# Altium schematic symbol library Analog_DAC.SchLib: 136 symbols (part 1 of 2)
Pins are listed as number, name and electrical type; pins without a type are passive.

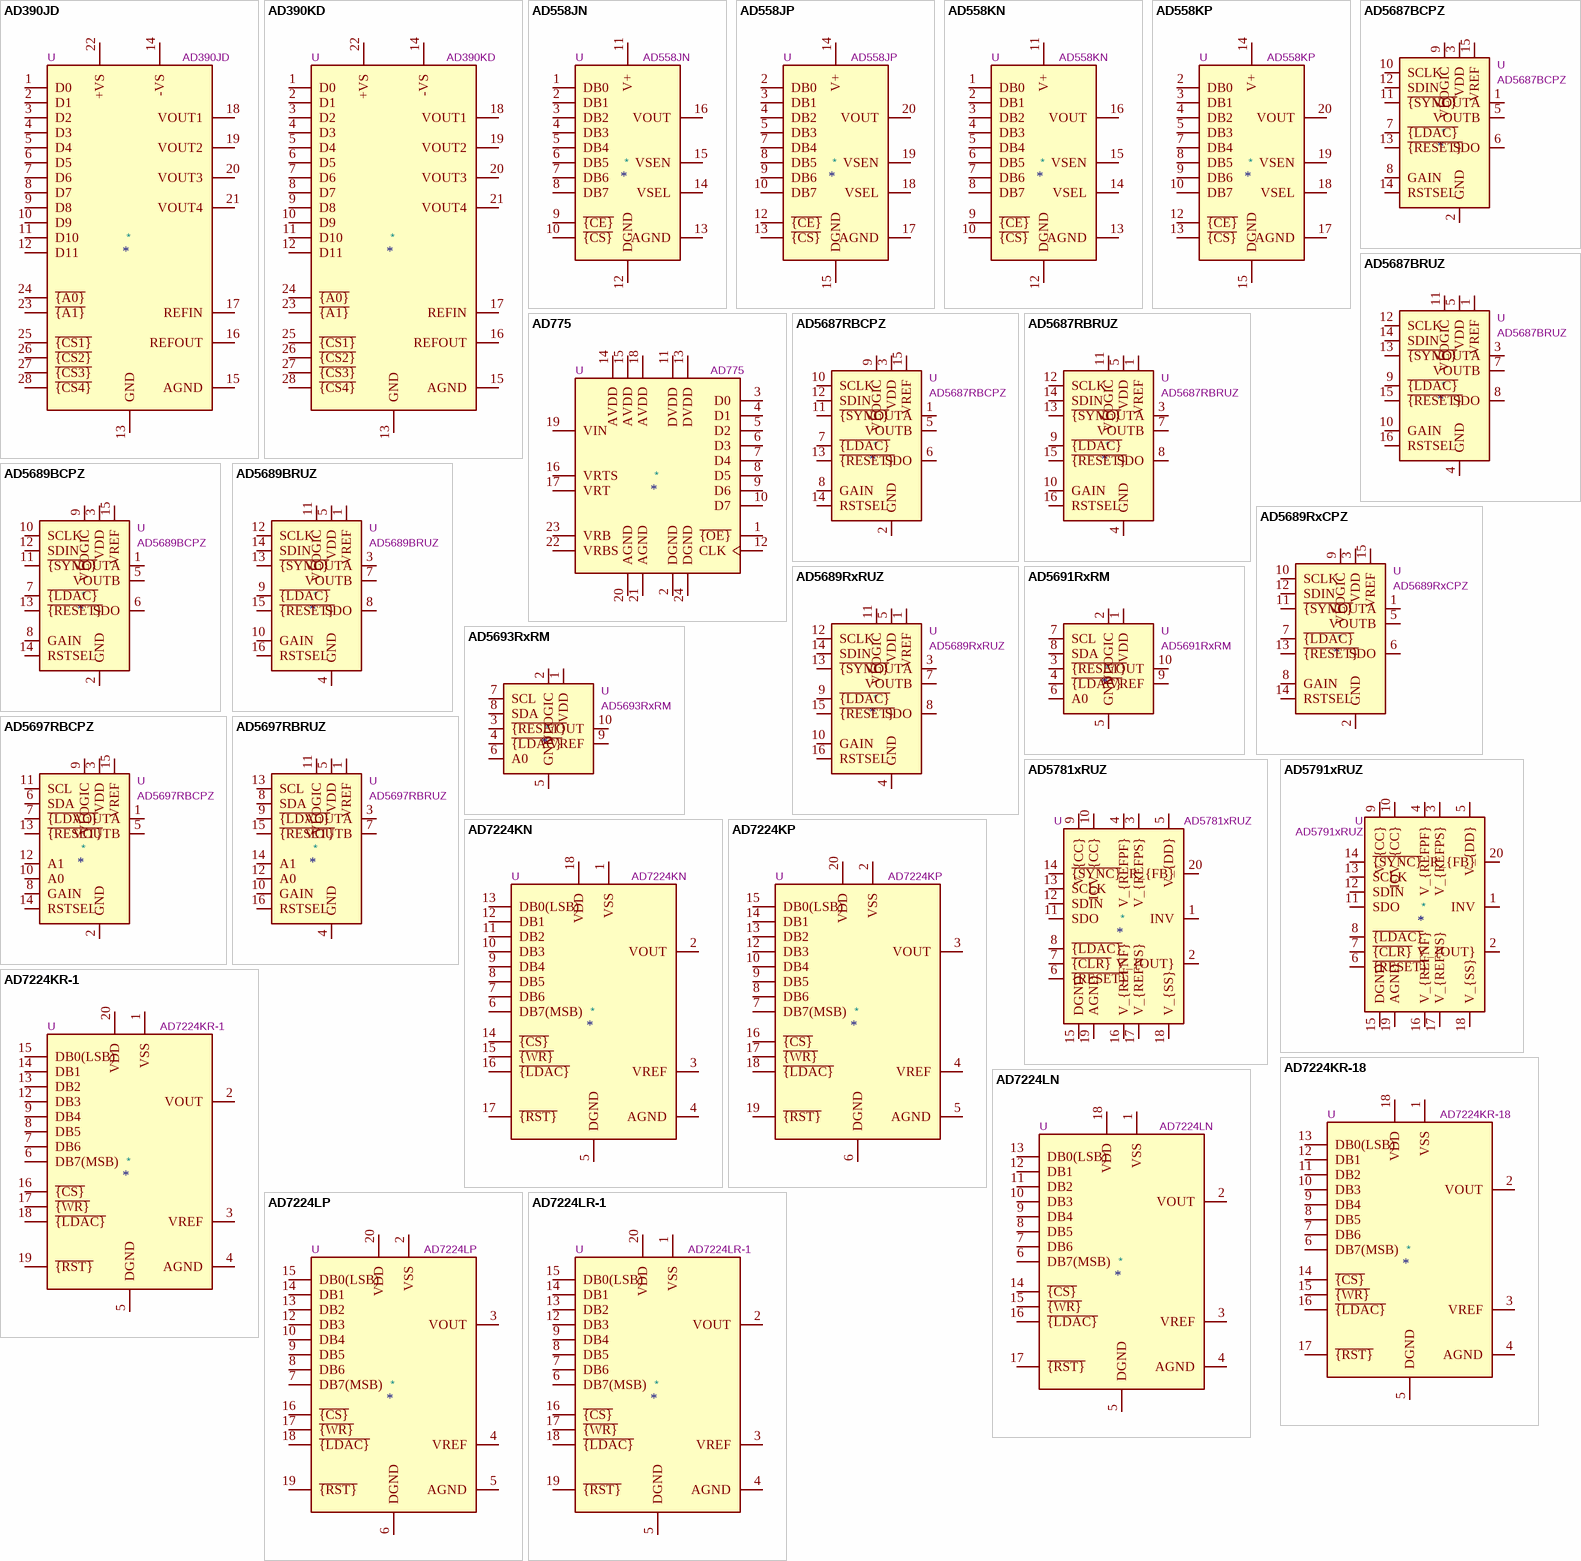
[diagram p0: symbols AD390JD to AD7224LR-1]

## AD390JD
designator *  value AD390JD  Reference: U
ki_keywords: 4ch DAC 12bit; ki_description: Quad 12bit DAC, 4LSB Gain Error, DH-28; Datasheet: https://www.analog.com/static/imported-files/data_sheets/AD390MIL.pdf
pins: 1 D0, 2 D1, 3 D2, 4 D3, 5 D4, 6 D5, 7 D6, 8 D7, 9 D8, 10 D9, 11 D10, 12 D11, 13 GND, 14 -VS, 15 AGND, 16 REFOUT, 17 REFIN, 18 VOUT1, 19 VOUT2, 20 VOUT3, 21 VOUT4, 22 +VS, 23 ~{{A1}}, 24 ~{{A0}}, 25 ~{{CS1}}, 26 ~{{CS2}}, 27 ~{{CS3}}, 28 ~{{CS4}}

## AD390KD
designator *  value AD390KD  Reference: U
ki_keywords: 4ch DAC 12bit; ki_description: Quad 12bit DAC, 2LSB Gain Error, DH-28; Datasheet: https://www.analog.com/static/imported-files/data_sheets/AD390MIL.pdf
pins: 1 D0, 2 D1, 3 D2, 4 D3, 5 D4, 6 D5, 7 D6, 8 D7, 9 D8, 10 D9, 11 D10, 12 D11, 13 GND, 14 -VS, 15 AGND, 16 REFOUT, 17 REFIN, 18 VOUT1, 19 VOUT2, 20 VOUT3, 21 VOUT4, 22 +VS, 23 ~{{A1}}, 24 ~{{A0}}, 25 ~{{CS1}}, 26 ~{{CS2}}, 27 ~{{CS3}}, 28 ~{{CS4}}

## AD558JN
designator *  value AD558JN  Reference: U
ki_keywords: 8bit DAC Reference Single Supply; ki_description: Single 8-bit DAC, Internal Reference, Output Amp, Single Supply, DIP-16; ki_fp_filters: DIP* PDIP*; Datasheet: https://www.analog.com/static/imported-files/data_sheets/AD558.pdf
pins: 1 DB0, 2 DB1, 3 DB2, 4 DB3, 5 DB4, 6 DB5, 7 DB6, 8 DB7, 9 ~{{CE}}, 10 ~{{CS}}, 11 V+, 12 DGND, 13 AGND, 14 VSEL, 15 VSEN, 16 VOUT

## AD558JP
designator *  value AD558JP  Reference: U
ki_keywords: 8bit DAC Reference Single Supply; ki_description: Single 8-bit DAC, Internal Reference, Output Amp, Single Supply, PLCC-20; Datasheet: https://www.analog.com/static/imported-files/data_sheets/AD558.pdf
pins: 2 DB0, 3 DB1, 4 DB2, 5 DB3, 7 DB4, 8 DB5, 9 DB6, 10 DB7, 12 ~{{CE}}, 13 ~{{CS}}, 14 V+, 15 DGND, 17 AGND, 18 VSEL, 19 VSEN, 20 VOUT

## AD558KN
designator *  value AD558KN  Reference: U
ki_keywords: 8bit DAC Reference Single Supply; ki_description: Single 8-bit DAC, Internal Reference, Output Amp, Single Supply, DIP-16; ki_fp_filters: DIP* PDIP*; Datasheet: https://www.analog.com/static/imported-files/data_sheets/AD558.pdf
pins: 1 DB0, 2 DB1, 3 DB2, 4 DB3, 5 DB4, 6 DB5, 7 DB6, 8 DB7, 9 ~{{CE}}, 10 ~{{CS}}, 11 V+, 12 DGND, 13 AGND, 14 VSEL, 15 VSEN, 16 VOUT

## AD558KP
designator *  value AD558KP  Reference: U
ki_keywords: 8bit DAC Reference Single Supply; ki_description: Single 8-bit DAC, Internal Reference, Output Amp, Single Supply, PLCC-20; Datasheet: https://www.analog.com/static/imported-files/data_sheets/AD558.pdf
pins: 2 DB0, 3 DB1, 4 DB2, 5 DB3, 7 DB4, 8 DB5, 9 DB6, 10 DB7, 12 ~{{CE}}, 13 ~{{CS}}, 14 V+, 15 DGND, 17 AGND, 18 VSEL, 19 VSEN, 20 VOUT

## AD775
designator *  value AD775  Reference: U
ki_keywords: DAC CNA; ki_description: DA Converter 8 bits - 20MHz, PDIP/SOIC-24; Datasheet: https://www.analog.com/media/en/technical-documentation/data-sheets/AD775.pdf
pins: 1 ~{{OE}}, 2 DGND, 3 D0, 4 D1, 5 D2, 6 D3, 7 D4, 8 D5, 9 D6, 10 D7, 11 DVDD, 12 CLK, 13 DVDD, 14 AVDD, 15 AVDD, 16 VRTS, 17 VRT, 18 AVDD, 19 VIN, 20 AGND, 21 AGND, 22 VRBS, 23 VRB, 24 DGND

## AD5687BCPZ
designator *  value AD5687BCPZ  Reference: U
ki_keywords: dac 2nch 12bit spi; ki_description: Dual, 12-Bit nanoDAC+ with SPI Interface, LFCSP-16; ki_fp_filters: LFCSP*3x3mm*P0.5mm*; Footprint: Package_CSP:LFCSP-16-1EP_3x3mm_P0.5mm_EP1.854x1.854mm; Datasheet: https://www.analog.com/media/en/technical-documentation/data-sheets/AD5689_5687.pdf
pins: 1 VOUTA, 2 GND, 3 VDD, 4 NC hidden, 5 VOUTB, 6 SDO, 7 ~{{LDAC}}, 8 GAIN, 9 VLOGIC, 10 SCLK, 11 ~{{SYNC}}, 12 SDIN, 13 ~{{RESET}}, 14 RSTSEL, 15 VREF, 16 NC hidden, 17 GND hidden

## AD5687BRUZ
designator *  value AD5687BRUZ  Reference: U
ki_keywords: dac 2nch 12bit spi; ki_description: Dual, 12-Bit nanoDAC+ with SPI Interface, TSSOP-16; ki_fp_filters: TSSOP*4.4x5mm*P0.65mm*; Footprint: Package_SO:TSSOP-16_4.4x5mm_P0.65mm; Datasheet: https://www.analog.com/media/en/technical-documentation/data-sheets/AD5689_5687.pdf
pins: 1 VREF, 2 NC hidden, 3 VOUTA, 4 GND, 5 VDD, 6 NC hidden, 7 VOUTB, 8 SDO, 9 ~{{LDAC}}, 10 GAIN, 11 VLOGIC, 12 SCLK, 13 ~{{SYNC}}, 14 SDIN, 15 ~{{RESET}}, 16 RSTSEL

## AD5687RBCPZ
designator *  value AD5687RBCPZ  Reference: U
ki_keywords: dac 2nch 12bit spi; ki_description: Dual, 12-Bit nanoDAC+ with 2 ppm/°C Reference, SPI Interface, LFCSP-16; ki_fp_filters: LFCSP*3x3mm*P0.5mm*; Footprint: Package_CSP:LFCSP-16-1EP_3x3mm_P0.5mm_EP1.854x1.854mm; Datasheet: https://www.analog.com/media/en/technical-documentation/data-sheets/AD5689R_5687R.pdf
pins: 1 VOUTA, 2 GND, 3 VDD, 4 NC hidden, 5 VOUTB, 6 SDO, 7 ~{{LDAC}}, 8 GAIN, 9 VLOGIC, 10 SCLK, 11 ~{{SYNC}}, 12 SDIN, 13 ~{{RESET}}, 14 RSTSEL, 15 VREF, 16 NC hidden, 17 GND hidden

## AD5687RBRUZ
designator *  value AD5687RBRUZ  Reference: U
ki_keywords: dac 2nch 12bit spi; ki_description: Dual, 12-Bit nanoDAC+ with 2 ppm/°C Reference, SPI Interface, TSSOP-16; ki_fp_filters: TSSOP*4.4x5mm*P0.65mm*; Footprint: Package_SO:TSSOP-16_4.4x5mm_P0.65mm; Datasheet: https://www.analog.com/media/en/technical-documentation/data-sheets/AD5689R_5687R.pdf
pins: 1 VREF, 2 NC hidden, 3 VOUTA, 4 GND, 5 VDD, 6 NC hidden, 7 VOUTB, 8 SDO, 9 ~{{LDAC}}, 10 GAIN, 11 VLOGIC, 12 SCLK, 13 ~{{SYNC}}, 14 SDIN, 15 ~{{RESET}}, 16 RSTSEL

## AD5689BCPZ
designator *  value AD5689BCPZ  Reference: U
ki_keywords: dac 2nch 16bit spi; ki_description: Dual, 16-Bit nanoDAC+ with SPI Interface, LFCSP-16; ki_fp_filters: LFCSP*3x3mm*P0.5mm*; Footprint: Package_CSP:LFCSP-16-1EP_3x3mm_P0.5mm_EP1.854x1.854mm; Datasheet: https://www.analog.com/media/en/technical-documentation/data-sheets/AD5689_5687.pdf
pins: 1 VOUTA, 2 GND, 3 VDD, 4 NC hidden, 5 VOUTB, 6 SDO, 7 ~{{LDAC}}, 8 GAIN, 9 VLOGIC, 10 SCLK, 11 ~{{SYNC}}, 12 SDIN, 13 ~{{RESET}}, 14 RSTSEL, 15 VREF, 16 NC hidden, 17 GND hidden

## AD5689BRUZ
designator *  value AD5689BRUZ  Reference: U
ki_keywords: dac 2nch 16bit spi; ki_description: Dual, 16-Bit nanoDAC+ with SPI Interface, TSSOP-16; ki_fp_filters: TSSOP*4.4x5mm*P0.65mm*; Footprint: Package_SO:TSSOP-16_4.4x5mm_P0.65mm; Datasheet: https://www.analog.com/media/en/technical-documentation/data-sheets/AD5689_5687.pdf
pins: 1 VREF, 2 NC hidden, 3 VOUTA, 4 GND, 5 VDD, 6 NC hidden, 7 VOUTB, 8 SDO, 9 ~{{LDAC}}, 10 GAIN, 11 VLOGIC, 12 SCLK, 13 ~{{SYNC}}, 14 SDIN, 15 ~{{RESET}}, 16 RSTSEL

## AD5689RxCPZ
designator *  value AD5689RxCPZ  Reference: U
ki_keywords: dac 2nch 16bit spi; ki_description: Dual, 16-Bit nanoDAC+ with 2 ppm/°C Reference, SPI Interface, LFCSP-16; ki_fp_filters: LFCSP*3x3mm*P0.5mm*; Footprint: Package_CSP:LFCSP-16-1EP_3x3mm_P0.5mm_EP1.854x1.854mm; Datasheet: https://www.analog.com/media/en/technical-documentation/data-sheets/AD5689R_5687R.pdf
pins: 1 VOUTA, 2 GND, 3 VDD, 4 NC hidden, 5 VOUTB, 6 SDO, 7 ~{{LDAC}}, 8 GAIN, 9 VLOGIC, 10 SCLK, 11 ~{{SYNC}}, 12 SDIN, 13 ~{{RESET}}, 14 RSTSEL, 15 VREF, 16 NC hidden, 17 GND hidden

## AD5689RxRUZ
designator *  value AD5689RxRUZ  Reference: U
ki_keywords: dac 2nch 16bit spi; ki_description: Dual, 16-Bit nanoDAC+ with 2 ppm/°C Reference, SPI Interface, TSSOP-16; ki_fp_filters: TSSOP*4.4x5mm*P0.65mm*; Footprint: Package_SO:TSSOP-16_4.4x5mm_P0.65mm; Datasheet: https://www.analog.com/media/en/technical-documentation/data-sheets/AD5689R_5687R.pdf
pins: 1 VREF, 2 NC hidden, 3 VOUTA, 4 GND, 5 VDD, 6 NC hidden, 7 VOUTB, 8 SDO, 9 ~{{LDAC}}, 10 GAIN, 11 VLOGIC, 12 SCLK, 13 ~{{SYNC}}, 14 SDIN, 15 ~{{RESET}}, 16 RSTSEL

## AD5691RxRM
designator *  value AD5691RxRM  Reference: U
ki_keywords: serial DAC i2c digital analog converter; ki_description: Tiny, 12-Bit, I2C, nanoDAC+, 2 ppm/°C Reference, MSOP-10; ki_fp_filters: MSOP*3x3mm*P0.5mm*; Footprint: Package_SO:MSOP-10_3x3mm_P0.5mm; Datasheet: https://www.analog.com/media/en/technical-documentation/data-sheets/AD5693R_5692R_5691R_5693.pdf
pins: 1 VDD, 2 VLOGIC, 3 ~{{RESET}}, 4 ~{{LDAC}}, 5 GND, 6 A0, 7 SCL, 8 SDA, 9 VREF, 10 VOUT

## AD5693RxRM
designator *  value AD5693RxRM  Reference: U
ki_keywords: serial DAC i2c digital analog converter; ki_description: Tiny, 16-Bit, I2C, nanoDAC+, 2 ppm/°C Reference, MSOP-10; ki_fp_filters: MSOP*3x3mm*P0.5mm*; Footprint: Package_SO:MSOP-10_3x3mm_P0.5mm; Datasheet: https://www.analog.com/media/en/technical-documentation/data-sheets/AD5693R_5692R_5691R_5693.pdf
pins: 1 VDD, 2 VLOGIC, 3 ~{{RESET}}, 4 ~{{LDAC}}, 5 GND, 6 A0, 7 SCL, 8 SDA, 9 VREF, 10 VOUT

## AD5697RBCPZ
designator *  value AD5697RBCPZ  Reference: U
ki_keywords: dac 2nch 12bit i2c; ki_description: Dual, 12-Bit nanoDAC+ with 2 ppm/°C Reference, I2C Interface, LFCSP-16; ki_fp_filters: LFCSP*3x3mm*P0.5mm*; Footprint: Package_CSP:LFCSP-16-1EP_3x3mm_P0.5mm_EP1.854x1.854mm; Datasheet: https://www.analog.com/media/en/technical-documentation/data-sheets/AD5697R.pdf
pins: 1 VOUTA, 2 GND, 3 VDD, 4 NC hidden, 5 VOUTB, 6 SDA, 7 ~{{LDAC}}, 8 GAIN, 9 VLOGIC, 10 A0, 11 SCL, 12 A1, 13 ~{{RESET}}, 14 RSTSEL, 15 VREF, 16 NC hidden, 17 GND hidden

## AD5697RBRUZ
designator *  value AD5697RBRUZ  Reference: U
ki_keywords: dac 2nch 12bit i2c; ki_description: Dual, 12-Bit nanoDAC+ with 2 ppm/°C Reference, I2C Interface, TSSOP-16; ki_fp_filters: TSSOP*4.4x5mm*P0.65mm*; Footprint: Package_SO:TSSOP-16_4.4x5mm_P0.65mm; Datasheet: https://www.analog.com/media/en/technical-documentation/data-sheets/AD5697R.pdf
pins: 1 VREF, 2 NC hidden, 3 VOUTA, 4 GND, 5 VDD, 6 NC hidden, 7 VOUTB, 8 SDA, 9 ~{{LDAC}}, 10 GAIN, 11 VLOGIC, 12 A0, 13 SCL, 14 A1, 15 ~{{RESET}}, 16 RSTSEL

## AD5781xRUZ
designator *  value AD5781xRUZ  Reference: U
ki_keywords: 1ch; ki_description: 18Bit, ±0,5 LSB INL, Voltage Output DAC, TSSOP-20; ki_fp_filters: TSSOP*4.4?6.5mm*P0.65mm*; Footprint: Package_SO:TSSOP-20_4.4x6.5mm_P0.65mm; Datasheet: https://www.analog.com/media/en/technical-documentation/data-sheets/ad5781.pdf
pins: 1 INV, 2 V_{OUT}, 3 V_{REFPS}, 4 V_{REFPF}, 5 V_{DD}, 6 ~{{RESET}}, 7 ~{{CLR}}, 8 ~{{LDAC}}, 9 V_{CC}, 10 IOV_{CC}, 11 SDO, 12 SDIN, 13 SCLK, 14 ~{{SYNC}}, 15 DGND, 16 V_{REFNF}, 17 V_{REFNS}, 18 V_{SS}, 19 AGND, 20 R_{FB}

## AD5791xRUZ
designator *  value AD5791xRUZ  Reference: U
ki_keywords: 1ch; ki_description: 1 ppm, 20-Bit, ±1 LSB INL, Voltage Output DAC, TSSOP-20; ki_fp_filters: TSSOP*4.4?6.5mm*P0.65mm*; Footprint: Package_SO:TSSOP-20_4.4x6.5mm_P0.65mm; Datasheet: https://www.analog.com/media/en/technical-documentation/data-sheets/ad5791.pdf
pins: 1 INV, 2 V_{OUT}, 3 V_{REFPS}, 4 V_{REFPF}, 5 V_{DD}, 6 ~{{RESET}}, 7 ~{{CLR}}, 8 ~{{LDAC}}, 9 V_{CC}, 10 IOV_{CC}, 11 SDO, 12 SDIN, 13 SCLK, 14 ~{{SYNC}}, 15 DGND, 16 V_{REFNF}, 17 V_{REFNS}, 18 V_{SS}, 19 AGND, 20 R_{FB}

## AD7224KN
designator *  value AD7224KN  Reference: U
ki_keywords: 8bit DAC Dual Single Supply 1ch; ki_description: 8bit DAC, Dual or Single Supply, DIP-18; ki_fp_filters: DIP* PDIP*; Datasheet: https://www.analog.com/static/imported-files/data_sheets/AD7224.pdf
pins: 1 VSS, 2 VOUT, 3 VREF, 4 AGND, 5 DGND, 6 DB7(MSB), 7 DB6, 8 DB5, 9 DB4, 10 DB3, 11 DB2, 12 DB1, 13 DB0(LSB), 14 ~{{CS}}, 15 ~{{WR}}, 16 ~{{LDAC}}, 17 ~{{RST}}, 18 VDD

## AD7224KP
designator *  value AD7224KP  Reference: U
ki_keywords: 8bit DAC Dual Single Supply; ki_description: 8bit DAC, Dual or Single Supply, PLCC-20; ki_fp_filters: PLCC*; Datasheet: https://www.analog.com/static/imported-files/data_sheets/AD7224.pdf
pins: 2 VSS, 3 VOUT, 4 VREF, 5 AGND, 6 DGND, 7 DB7(MSB), 8 DB6, 9 DB5, 10 DB4, 12 DB3, 13 DB2, 14 DB1, 15 DB0(LSB), 16 ~{{CS}}, 17 ~{{WR}}, 18 ~{{LDAC}}, 19 ~{{RST}}, 20 VDD

## AD7224KR-1
designator *  value AD7224KR-1  Reference: U
ki_keywords: 8bit DAC Dual Single Supply; ki_description: 8bit DAC, Dual or Single Supply, SOIC-20; ki_fp_filters: SO*; Datasheet: https://www.analog.com/static/imported-files/data_sheets/AD7224.pdf
pins: 1 VSS, 2 VOUT, 3 VREF, 4 AGND, 5 DGND, 6 DB7(MSB), 7 DB6, 8 DB5, 9 DB4, 12 DB3, 13 DB2, 14 DB1, 15 DB0(LSB), 16 ~{{CS}}, 17 ~{{WR}}, 18 ~{{LDAC}}, 19 ~{{RST}}, 20 VDD

## AD7224KR-18
designator *  value AD7224KR-18  Reference: U
ki_keywords: 8bit DAC Dual Single Supply; ki_description: 8bit DAC, Dual or Single Supply, SOIC-18; ki_fp_filters: SO*; Datasheet: https://www.analog.com/static/imported-files/data_sheets/AD7224.pdf
pins: 1 VSS, 2 VOUT, 3 VREF, 4 AGND, 5 DGND, 6 DB7(MSB), 7 DB6, 8 DB5, 9 DB4, 10 DB3, 11 DB2, 12 DB1, 13 DB0(LSB), 14 ~{{CS}}, 15 ~{{WR}}, 16 ~{{LDAC}}, 17 ~{{RST}}, 18 VDD

## AD7224LN
designator *  value AD7224LN  Reference: U
ki_keywords: 8bit DAC Dual Single Supply; ki_description: 8bit DAC, Dual or Single Supply, DIP-18; ki_fp_filters: DIP* PDIP*; Datasheet: https://www.analog.com/static/imported-files/data_sheets/AD7224.pdf
pins: 1 VSS, 2 VOUT, 3 VREF, 4 AGND, 5 DGND, 6 DB7(MSB), 7 DB6, 8 DB5, 9 DB4, 10 DB3, 11 DB2, 12 DB1, 13 DB0(LSB), 14 ~{{CS}}, 15 ~{{WR}}, 16 ~{{LDAC}}, 17 ~{{RST}}, 18 VDD

## AD7224LP
designator *  value AD7224LP  Reference: U
ki_keywords: 8bit DAC Dual Single Supply; ki_description: 8bit DAC, Dual or Single Supply, PLCC-20; ki_fp_filters: PLCC*; Datasheet: https://www.analog.com/static/imported-files/data_sheets/AD7224.pdf
pins: 2 VSS, 3 VOUT, 4 VREF, 5 AGND, 6 DGND, 7 DB7(MSB), 8 DB6, 9 DB5, 10 DB4, 12 DB3, 13 DB2, 14 DB1, 15 DB0(LSB), 16 ~{{CS}}, 17 ~{{WR}}, 18 ~{{LDAC}}, 19 ~{{RST}}, 20 VDD

## AD7224LR-1
designator *  value AD7224LR-1  Reference: U
ki_keywords: 8bit DAC Dual Single Supply; ki_description: 8bit DAC, Dual or Single Supply, SOIC-20; ki_fp_filters: SO*; Datasheet: https://www.analog.com/static/imported-files/data_sheets/AD7224.pdf
pins: 1 VSS, 2 VOUT, 3 VREF, 4 AGND, 5 DGND, 6 DB7(MSB), 7 DB6, 8 DB5, 9 DB4, 12 DB3, 13 DB2, 14 DB1, 15 DB0(LSB), 16 ~{{CS}}, 17 ~{{WR}}, 18 ~{{LDAC}}, 19 ~{{RST}}, 20 VDD

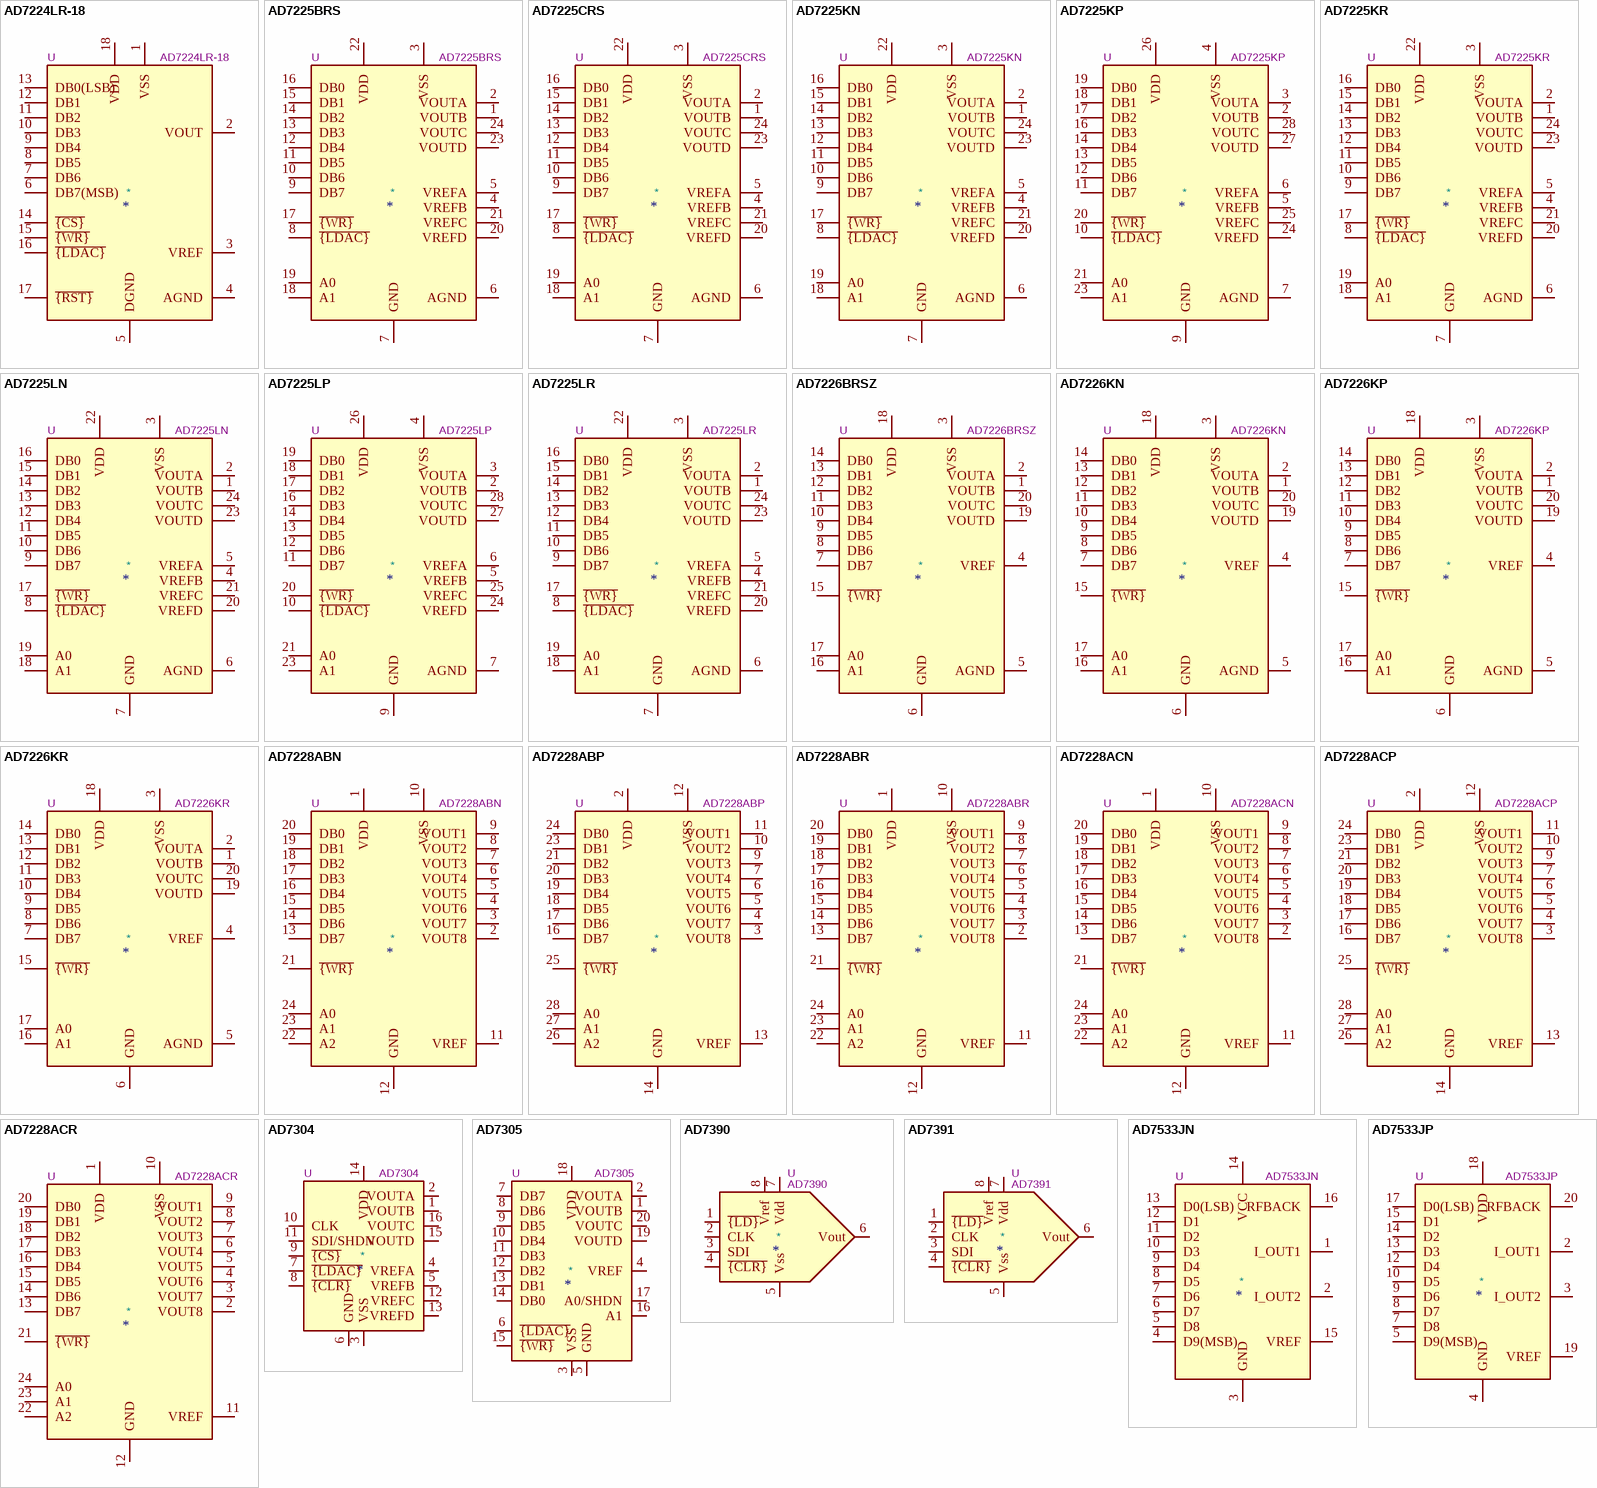
[diagram p1: symbols AD7224LR-18 to AD7533JP]

## AD7224LR-18
designator *  value AD7224LR-18  Reference: U
ki_keywords: 8bit DAC Dual Single Supply; ki_description: 8bit DAC, Dual or Single Supply, SOIC-18; ki_fp_filters: SO*; Datasheet: https://www.analog.com/static/imported-files/data_sheets/AD7224.pdf
pins: 1 VSS, 2 VOUT, 3 VREF, 4 AGND, 5 DGND, 6 DB7(MSB), 7 DB6, 8 DB5, 9 DB4, 10 DB3, 11 DB2, 12 DB1, 13 DB0(LSB), 14 ~{{CS}}, 15 ~{{WR}}, 16 ~{{LDAC}}, 17 ~{{RST}}, 18 VDD

## AD7225BRS
designator *  value AD7225BRS  Reference: U
ki_keywords: 8bit DAC 4CH; ki_description: Quad 8bit DAC, Separate Reference Voltage, SSOP-24; ki_fp_filters: SSOP*; Datasheet: https://www.analog.com/static/imported-files/data_sheets/AD7225.pdf
pins: 1 VOUTB, 2 VOUTA, 3 VSS, 4 VREFB, 5 VREFA, 6 AGND, 7 GND, 8 ~{{LDAC}}, 9 DB7, 10 DB6, 11 DB5, 12 DB4, 13 DB3, 14 DB2, 15 DB1, 16 DB0, 17 ~{{WR}}, 18 A1, 19 A0, 20 VREFD, 21 VREFC, 22 VDD, 23 VOUTD, 24 VOUTC

## AD7225CRS
designator *  value AD7225CRS  Reference: U
ki_keywords: 8bit DAC 4CH; ki_description: Quad 8bit DAC, Separate Reference Voltage, SSOP-24; ki_fp_filters: SSOP*; Datasheet: https://www.analog.com/static/imported-files/data_sheets/AD7225.pdf
pins: 1 VOUTB, 2 VOUTA, 3 VSS, 4 VREFB, 5 VREFA, 6 AGND, 7 GND, 8 ~{{LDAC}}, 9 DB7, 10 DB6, 11 DB5, 12 DB4, 13 DB3, 14 DB2, 15 DB1, 16 DB0, 17 ~{{WR}}, 18 A1, 19 A0, 20 VREFD, 21 VREFC, 22 VDD, 23 VOUTD, 24 VOUTC

## AD7225KN
designator *  value AD7225KN  Reference: U
ki_keywords: 8bit DAC 4CH; ki_description: Quad 8bit DAC, Separate Reference Voltage, PDIP-24; ki_fp_filters: DIP* PDIP*; Datasheet: https://www.analog.com/static/imported-files/data_sheets/AD7225.pdf
pins: 1 VOUTB, 2 VOUTA, 3 VSS, 4 VREFB, 5 VREFA, 6 AGND, 7 GND, 8 ~{{LDAC}}, 9 DB7, 10 DB6, 11 DB5, 12 DB4, 13 DB3, 14 DB2, 15 DB1, 16 DB0, 17 ~{{WR}}, 18 A1, 19 A0, 20 VREFD, 21 VREFC, 22 VDD, 23 VOUTD, 24 VOUTC

## AD7225KP
designator *  value AD7225KP  Reference: U
ki_keywords: 8bit DAC 4CH; ki_description: Quad 8bit DAC, Separate Reference Voltage, PLCC-28; ki_fp_filters: PLCC*; Datasheet: https://www.analog.com/static/imported-files/data_sheets/AD7225.pdf
pins: 2 VOUTB, 3 VOUTA, 4 VSS, 5 VREFB, 6 VREFA, 7 AGND, 9 GND, 10 ~{{LDAC}}, 11 DB7, 12 DB6, 13 DB5, 14 DB4, 16 DB3, 17 DB2, 18 DB1, 19 DB0, 20 ~{{WR}}, 21 A0, 23 A1, 24 VREFD, 25 VREFC, 26 VDD, 27 VOUTD, 28 VOUTC

## AD7225KR
designator *  value AD7225KR  Reference: U
ki_keywords: 8bit DAC 4CH; ki_description: Quad 8bit DAC, Separate Reference Voltage, SOIC-24; ki_fp_filters: SO*; Datasheet: https://www.analog.com/static/imported-files/data_sheets/AD7225.pdf
pins: 1 VOUTB, 2 VOUTA, 3 VSS, 4 VREFB, 5 VREFA, 6 AGND, 7 GND, 8 ~{{LDAC}}, 9 DB7, 10 DB6, 11 DB5, 12 DB4, 13 DB3, 14 DB2, 15 DB1, 16 DB0, 17 ~{{WR}}, 18 A1, 19 A0, 20 VREFD, 21 VREFC, 22 VDD, 23 VOUTD, 24 VOUTC

## AD7225LN
designator *  value AD7225LN  Reference: U
ki_keywords: 8bit DAC 4CH; ki_description: Quad 8bit DAC, Separate Reference Voltage, PDIP-24; ki_fp_filters: DIP* PDIP*; Datasheet: https://www.analog.com/static/imported-files/data_sheets/AD7225.pdf
pins: 1 VOUTB, 2 VOUTA, 3 VSS, 4 VREFB, 5 VREFA, 6 AGND, 7 GND, 8 ~{{LDAC}}, 9 DB7, 10 DB6, 11 DB5, 12 DB4, 13 DB3, 14 DB2, 15 DB1, 16 DB0, 17 ~{{WR}}, 18 A1, 19 A0, 20 VREFD, 21 VREFC, 22 VDD, 23 VOUTD, 24 VOUTC

## AD7225LP
designator *  value AD7225LP  Reference: U
ki_keywords: 8bit DAC 4CH; ki_description: Quad 8bit DAC, Separate Reference Voltage, PLCC-28; ki_fp_filters: PLCC*; Datasheet: https://www.analog.com/static/imported-files/data_sheets/AD7225.pdf
pins: 2 VOUTB, 3 VOUTA, 4 VSS, 5 VREFB, 6 VREFA, 7 AGND, 9 GND, 10 ~{{LDAC}}, 11 DB7, 12 DB6, 13 DB5, 14 DB4, 16 DB3, 17 DB2, 18 DB1, 19 DB0, 20 ~{{WR}}, 21 A0, 23 A1, 24 VREFD, 25 VREFC, 26 VDD, 27 VOUTD, 28 VOUTC

## AD7225LR
designator *  value AD7225LR  Reference: U
ki_keywords: 8bit DAC 4CH; ki_description: Quad 8bit DAC, Separate Reference Voltage, SO-24; ki_fp_filters: SO*; Datasheet: https://www.analog.com/static/imported-files/data_sheets/AD7225.pdf
pins: 1 VOUTB, 2 VOUTA, 3 VSS, 4 VREFB, 5 VREFA, 6 AGND, 7 GND, 8 ~{{LDAC}}, 9 DB7, 10 DB6, 11 DB5, 12 DB4, 13 DB3, 14 DB2, 15 DB1, 16 DB0, 17 ~{{WR}}, 18 A1, 19 A0, 20 VREFD, 21 VREFC, 22 VDD, 23 VOUTD, 24 VOUTC

## AD7226BRSZ
designator *  value AD7226BRSZ  Reference: U
ki_keywords: 4CH DAC 8bit; ki_description: Quad 8bit DAC, 4 Channel, Single Reference Voltage, SSOP-20; ki_fp_filters: SSOP*; Datasheet: https://www.analog.com/static/imported-files/data_sheets/AD7226.pdf
pins: 1 VOUTB, 2 VOUTA, 3 VSS, 4 VREF, 5 AGND, 6 GND, 7 DB7, 8 DB6, 9 DB5, 10 DB4, 11 DB3, 12 DB2, 13 DB1, 14 DB0, 15 ~{{WR}}, 16 A1, 17 A0, 18 VDD, 19 VOUTD, 20 VOUTC

## AD7226KN
designator *  value AD7226KN  Reference: U
ki_keywords: 4CH DAC 8bit; ki_description: Quad 8bit DAC, 4 Channel, Single Reference Voltage, DIP-20; ki_fp_filters: DIP* PDIP*; Datasheet: https://www.analog.com/static/imported-files/data_sheets/AD7226.pdf
pins: 1 VOUTB, 2 VOUTA, 3 VSS, 4 VREF, 5 AGND, 6 GND, 7 DB7, 8 DB6, 9 DB5, 10 DB4, 11 DB3, 12 DB2, 13 DB1, 14 DB0, 15 ~{{WR}}, 16 A1, 17 A0, 18 VDD, 19 VOUTD, 20 VOUTC

## AD7226KP
designator *  value AD7226KP  Reference: U
ki_keywords: 4CH DAC 8bit; ki_description: Quad 8bit DAC, 4 Channel, Single Reference Voltage, PLCC-20; ki_fp_filters: PLCC*; Datasheet: https://www.analog.com/static/imported-files/data_sheets/AD7226.pdf
pins: 1 VOUTB, 2 VOUTA, 3 VSS, 4 VREF, 5 AGND, 6 GND, 7 DB7, 8 DB6, 9 DB5, 10 DB4, 11 DB3, 12 DB2, 13 DB1, 14 DB0, 15 ~{{WR}}, 16 A1, 17 A0, 18 VDD, 19 VOUTD, 20 VOUTC

## AD7226KR
designator *  value AD7226KR  Reference: U
ki_keywords: 4CH DAC 8bit; ki_description: Quad 8bit DAC, 4 Channel, Single Reference Voltage, SOIC-20; ki_fp_filters: SSOP*; Datasheet: https://www.analog.com/static/imported-files/data_sheets/AD7226.pdf
pins: 1 VOUTB, 2 VOUTA, 3 VSS, 4 VREF, 5 AGND, 6 GND, 7 DB7, 8 DB6, 9 DB5, 10 DB4, 11 DB3, 12 DB2, 13 DB1, 14 DB0, 15 ~{{WR}}, 16 A1, 17 A0, 18 VDD, 19 VOUTD, 20 VOUTC

## AD7228ABN
designator *  value AD7228ABN  Reference: U
ki_keywords: 8bit DAC 8CH; ki_description: 8bit DAC 8 Channel, Single Reference, DIP-24; ki_fp_filters: PDIP* DIP*; Datasheet: https://www.analog.com/static/imported-files/data_sheets/AD7228.pdf
pins: 1 VDD, 2 VOUT8, 3 VOUT7, 4 VOUT6, 5 VOUT5, 6 VOUT4, 7 VOUT3, 8 VOUT2, 9 VOUT1, 10 VSS, 11 VREF, 12 GND, 13 DB7, 14 DB6, 15 DB5, 16 DB4, 17 DB3, 18 DB2, 19 DB1, 20 DB0, 21 ~{{WR}}, 22 A2, 23 A1, 24 A0

## AD7228ABP
designator *  value AD7228ABP  Reference: U
ki_keywords: 8bit DAC 8CH; ki_description: 8bit DAC 8 Channel, Single Reference, PLCC-28; ki_fp_filters: PLCC*; Datasheet: https://www.analog.com/static/imported-files/data_sheets/AD7228.pdf
pins: 2 VDD, 3 VOUT8, 4 VOUT7, 5 VOUT6, 6 VOUT5, 7 VOUT4, 9 VOUT3, 10 VOUT2, 11 VOUT1, 12 VSS, 13 VREF, 14 GND, 16 DB7, 17 DB6, 18 DB5, 19 DB4, 20 DB3, 21 DB2, 23 DB1, 24 DB0, 25 ~{{WR}}, 26 A2, 27 A1, 28 A0

## AD7228ABR
designator *  value AD7228ABR  Reference: U
ki_keywords: 8bit DAC 8CH; ki_description: 8bit DAC 8 Channel, Single Reference, SOIC-24; ki_fp_filters: SO*; Datasheet: https://www.analog.com/static/imported-files/data_sheets/AD7228.pdf
pins: 1 VDD, 2 VOUT8, 3 VOUT7, 4 VOUT6, 5 VOUT5, 6 VOUT4, 7 VOUT3, 8 VOUT2, 9 VOUT1, 10 VSS, 11 VREF, 12 GND, 13 DB7, 14 DB6, 15 DB5, 16 DB4, 17 DB3, 18 DB2, 19 DB1, 20 DB0, 21 ~{{WR}}, 22 A2, 23 A1, 24 A0

## AD7228ACN
designator *  value AD7228ACN  Reference: U
ki_keywords: 8bit DAC 8CH; ki_description: 8bit DAC 8 Channel, Single Reference, DIP-24; ki_fp_filters: PDIP* DIP*; Datasheet: https://www.analog.com/static/imported-files/data_sheets/AD7228.pdf
pins: 1 VDD, 2 VOUT8, 3 VOUT7, 4 VOUT6, 5 VOUT5, 6 VOUT4, 7 VOUT3, 8 VOUT2, 9 VOUT1, 10 VSS, 11 VREF, 12 GND, 13 DB7, 14 DB6, 15 DB5, 16 DB4, 17 DB3, 18 DB2, 19 DB1, 20 DB0, 21 ~{{WR}}, 22 A2, 23 A1, 24 A0

## AD7228ACP
designator *  value AD7228ACP  Reference: U
ki_keywords: 8bit DAC 8CH; ki_description: 8bit DAC 8 Channel, Single Reference, PLCC-28; ki_fp_filters: PLCC*; Datasheet: https://www.analog.com/static/imported-files/data_sheets/AD7228.pdf
pins: 2 VDD, 3 VOUT8, 4 VOUT7, 5 VOUT6, 6 VOUT5, 7 VOUT4, 9 VOUT3, 10 VOUT2, 11 VOUT1, 12 VSS, 13 VREF, 14 GND, 16 DB7, 17 DB6, 18 DB5, 19 DB4, 20 DB3, 21 DB2, 23 DB1, 24 DB0, 25 ~{{WR}}, 26 A2, 27 A1, 28 A0

## AD7228ACR
designator *  value AD7228ACR  Reference: U
ki_keywords: 8bit DAC 8CH; ki_description: 8bit DAC 8 Channel, Single Reference, SOIC-24; ki_fp_filters: SO*; Datasheet: https://www.analog.com/static/imported-files/data_sheets/AD7228.pdf
pins: 1 VDD, 2 VOUT8, 3 VOUT7, 4 VOUT6, 5 VOUT5, 6 VOUT4, 7 VOUT3, 8 VOUT2, 9 VOUT1, 10 VSS, 11 VREF, 12 GND, 13 DB7, 14 DB6, 15 DB5, 16 DB4, 17 DB3, 18 DB2, 19 DB1, 20 DB0, 21 ~{{WR}}, 22 A2, 23 A1, 24 A0

## AD7304
designator *  value AD7304  Reference: U
ki_keywords: dac 4ch 8bit spi; ki_description: 3V/5V, Rail-to-Rail, Quad, 8-Bit DAC, SPI Interface, SOIC-16/TSSOP-16; ki_fp_filters: SOIC*W*7.5x10.3mm*P1.27mm* TSSOP*4.4x5mm*P0.65mm*; Datasheet: https://www.analog.com/media/en/technical-documentation/data-sheets/AD7304_7305.pdf
pins: 1 VOUTB, 2 VOUTA, 3 VSS, 4 VREFA, 5 VREFB, 6 GND, 7 ~{{LDAC}}, 8 ~{{CLR}}, 9 ~{{CS}}, 10 CLK, 11 SDI/SHDN, 12 VREFC, 13 VREFD, 14 VDD, 15 VOUTD, 16 VOUTC

## AD7305
designator *  value AD7305  Reference: U
ki_keywords: dac 4ch 8bit parallel; ki_description: 3V/5V, Rail-to-Rail, Quad, 8-Bit DAC, Parallel Interface, SOIC-20/TSSOP-20; ki_fp_filters: SOIC*W*7.5x12.8mm*P1.27mm* TSSOP*4.4x6.5mm*P0.65mm*; Datasheet: https://www.analog.com/media/en/technical-documentation/data-sheets/AD7304_7305.pdf
pins: 1 VOUTB, 2 VOUTA, 3 VSS, 4 VREF, 5 GND, 6 ~{{LDAC}}, 7 DB7, 8 DB6, 9 DB5, 10 DB4, 11 DB3, 12 DB2, 13 DB1, 14 DB0, 15 ~{{WR}}, 16 A1, 17 A0/SHDN, 18 VDD, 19 VOUTD, 20 VOUTC

## AD7390
designator *  value AD7390  Reference: U
ki_keywords: SPI 12 bit DAC; ki_description: Serial-Input Micropower 12-Bit DAC, DIP-8/SOIC-8/TSSOP-8; ki_fp_filters: DIP*W7.62mm* SOIC*3.9x4.9mm*P1.27mm* TSSOP*4.4x3mm*P0.65mm*; Datasheet: https://www.analog.com/media/en/technical-documentation/data-sheets/AD7390_7391.pdf
pins: 1 ~{{LD}}, 2 CLK, 3 SDI, 4 ~{{CLR}}, 5 Vss, 6 Vout, 7 Vdd, 8 Vref

## AD7391
designator *  value AD7391  Reference: U
ki_keywords: SPI 10 bit DAC; ki_description: Serial-Input Micropower 10-Bit DAC, DIP-8/SOIC-8/TSSOP-8; ki_fp_filters: DIP*W7.62mm* SOIC*3.9x4.9mm*P1.27mm* TSSOP*4.4x3mm*P0.65mm*; Datasheet: https://www.analog.com/media/en/technical-documentation/data-sheets/AD7390_7391.pdf
pins: 1 ~{{LD}}, 2 CLK, 3 SDI, 4 ~{{CLR}}, 5 Vss, 6 Vout, 7 Vdd, 8 Vref

## AD7533JN
designator *  value AD7533JN  Reference: U
ki_keywords: 10bit DAC 1CH; ki_description: 10bit Multiplying DAC, 1 Channel, DIP-16; ki_fp_filters: DIP* PDIP*; Datasheet: https://www.analog.com/static/imported-files/data_sheets/AD7533.pdf
pins: 1 I_OUT1, 2 I_OUT2, 3 GND, 4 D9(MSB), 5 D8, 6 D7, 7 D6, 8 D5, 9 D4, 10 D3, 11 D2, 12 D1, 13 D0(LSB), 14 VCC, 15 VREF, 16 RFBACK

## AD7533JP
designator *  value AD7533JP  Reference: U
ki_keywords: 10bit DAC 1CH; ki_description: 10bit Multiplying DAC, 1 Channel, PLCC-20; ki_fp_filters: PLCC*; Datasheet: https://www.analog.com/static/imported-files/data_sheets/AD7533.pdf
pins: 2 I_OUT1, 3 I_OUT2, 4 GND, 5 D9(MSB), 7 D8, 8 D7, 9 D6, 10 D5, 12 D4, 13 D3, 14 D2, 15 D1, 17 D0(LSB), 18 VDD, 19 VREF, 20 RFBACK

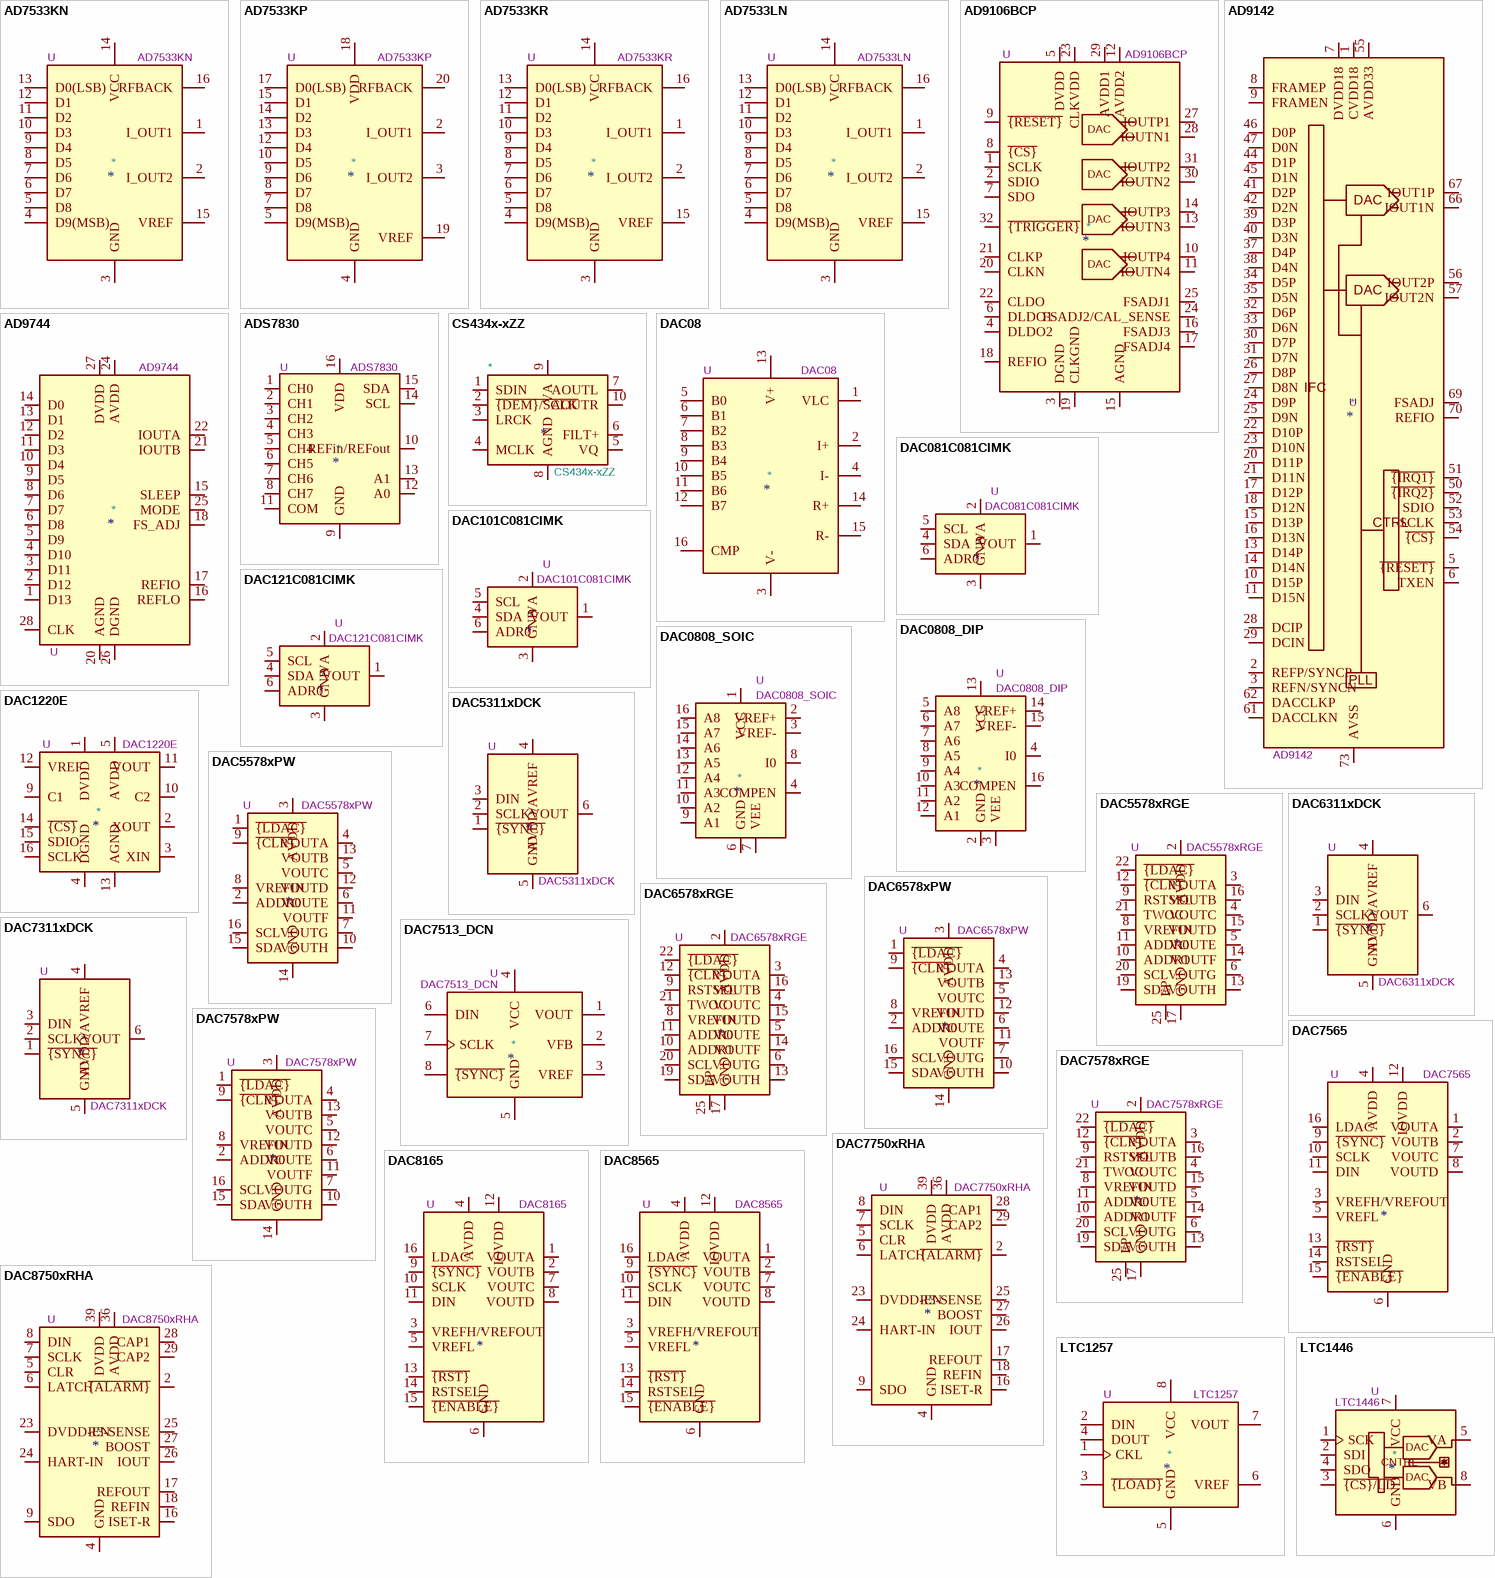
[diagram p2: symbols AD7533KN to LTC1446]

## AD7533KN
designator *  value AD7533KN  Reference: U
ki_keywords: 10bit DAC 1CH; ki_description: 10bit Multiplying DAC, 1 Channel, DIP-16; ki_fp_filters: DIP* PDIP*; Datasheet: https://www.analog.com/static/imported-files/data_sheets/AD7533.pdf
pins: 1 I_OUT1, 2 I_OUT2, 3 GND, 4 D9(MSB), 5 D8, 6 D7, 7 D6, 8 D5, 9 D4, 10 D3, 11 D2, 12 D1, 13 D0(LSB), 14 VCC, 15 VREF, 16 RFBACK

## AD7533KP
designator *  value AD7533KP  Reference: U
ki_keywords: 10bit DAC 1CH; ki_description: 10bit Multiplying DAC, 1 Channel, PLCC-20; ki_fp_filters: PLCC*; Datasheet: https://www.analog.com/static/imported-files/data_sheets/AD7533.pdf
pins: 2 I_OUT1, 3 I_OUT2, 4 GND, 5 D9(MSB), 7 D8, 8 D7, 9 D6, 10 D5, 12 D4, 13 D3, 14 D2, 15 D1, 17 D0(LSB), 18 VDD, 19 VREF, 20 RFBACK

## AD7533KR
designator *  value AD7533KR  Reference: U
ki_keywords: 10bit DAC 1CH; ki_description: 10bit Multiplying DAC, 1 Channel, SOIC-16; ki_fp_filters: DIP* PDIP*; Datasheet: https://www.analog.com/static/imported-files/data_sheets/AD7533.pdf
pins: 1 I_OUT1, 2 I_OUT2, 3 GND, 4 D9(MSB), 5 D8, 6 D7, 7 D6, 8 D5, 9 D4, 10 D3, 11 D2, 12 D1, 13 D0(LSB), 14 VCC, 15 VREF, 16 RFBACK

## AD7533LN
designator *  value AD7533LN  Reference: U
ki_keywords: 10bit DAC 1CH; ki_description: 10bit Multiplying DAC, 1 Channel, DIP-16; ki_fp_filters: DIP* PDIP*; Datasheet: https://www.analog.com/static/imported-files/data_sheets/AD7533.pdf
pins: 1 I_OUT1, 2 I_OUT2, 3 GND, 4 D9(MSB), 5 D8, 6 D7, 7 D6, 8 D5, 9 D4, 10 D3, 11 D2, 12 D1, 13 D0(LSB), 14 VCC, 15 VREF, 16 RFBACK

## AD9106BCP
designator *  value AD9106BCP  Reference: U
ki_keywords: analog devices DAC DDS; ki_description: Analog Devices Quad, Low Power, 12-Bit, 180 MSPS, Digital-to-Analog Converter and Waveform Generator; ki_fp_filters: *LFCSP*1EP*5x5mm*P0.5mm*EP3.6x3.6mm*; Footprint: Package_CSP:LFCSP-32-1EP_5x5mm_P0.5mm_EP3.6x3.6mm; Datasheet: https://www.analog.com/media/en/technical-documentation/data-sheets/ad9106.pdf
pins: 1 SCLK, 2 SDIO, 3 DGND, 4 DLDO2, 5 DVDD, 6 DLDO1, 7 SDO, 8 ~{{CS}}, 9 ~{{RESET}}, 10 IOUTP4, 11 IOUTN4, 12 AVDD2, 13 IOUTN3, 14 IOUTP3, 15 AGND, 16 FSADJ3, 17 FSADJ4, 18 REFIO, 19 CLKGND, 20 CLKN, 21 CLKP, 22 CLDO, 23 CLKVDD, 24 FSADJ2/CAL_SENSE, 25 FSADJ1, 26 AGND hidden, 27 IOUTP1, 28 IOUTN1, 29 AVDD1, 30 IOUTN2, 31 IOUTP2, 32 ~{{TRIGGER}}, 33 DGND hidden
text: DAC

## AD9142
designator *  value AD9142  Reference: U
ki_keywords: 16bit DAC 2CH; ki_description: 1.6GSPS 16bit dual-channel DAC, LFCSP-72; ki_fp_filters: LFCSP*1EP*10x10mm*P0.5mm*EP6.15x6.15mm*; Footprint: Package_CSP:LFCSP-72-1EP_10x10mm_P0.5mm_EP6.15x6.15mm; Datasheet: https://www.analog.com/media/en/technical-documentation/data-sheets/AD9142.pdf
pins: 1 CVDD18, 2 REFP/SYNCP, 3 REFN/SYNCN, 4 CVDD18 hidden, 5 ~{{RESET}}, 6 TXEN, 7 DVDD18, 8 FRAMEP, 9 FRAMEN, 10 D15P, 11 D15N, 12 DVDD18 hidden, 13 D14P, 14 D14N, 15 D13P, 16 D13N, 17 D12P, 18 D12N, 19 DVDD18 hidden, 20 D11P, 21 D11N, 22 D10P, 23 D10N, 24 D9P, 25 D9N, 26 D8P, 27 D8N, 28 DCIP, 29 DCIN, 30 D7P, 31 D7N, 32 D6P, 33 D6N, 34 D5P, 35 D5N, 36 DVDD18 hidden, 37 D4P, 38 D4N, 39 D3P, 40 D3N, 41 D2P, 42 D2N, 43 DVDD18 hidden, 44 D1P, 45 D1N, 46 D0P, 47 D0N, 48 DVDD18 hidden, 49 DVDD18 hidden, 50 ~{{IRQ2}}, 51 ~{{IRQ1}}, 52 SDIO, 53 SCLK, 54 ~{{CS}}, 55 AVDD33, 56 IOUT2P, 57 IOUT2N, 58 AVDD33 hidden, 59 CVDD18 hidden, 60 CVDD18 hidden, 61 DACCLKN, 62 DACCLKP, 63 CVDD18 hidden, 64 CVDD18 hidden, 65 AVDD33 hidden, 66 IOUT1N, 67 IOUT1P, 68 AVDD33 hidden, 69 FSADJ, 70 REFIO, 71 CVDD18 hidden, 72 CVDD18 hidden, 73 AVSS
text: DAC; IFC; CTRL; PLL

## AD9744
designator *  value AD9744  Reference: U
ki_keywords: 14bit DAC 1CH; ki_description: 210MSPS 14bit DAC, TSSOP-28; ki_fp_filters: TSSOP*4.4x9.7mm*P0.65mm*; Footprint: Package_SO:TSSOP-28_4.4x9.7mm_P0.65mm; Datasheet: https://www.analog.com/media/en/technical-documentation/data-sheets/AD9744.pdf
pins: 1 D13, 2 D12, 3 D11, 4 D10, 5 D9, 6 D8, 7 D7, 8 D6, 9 D5, 10 D4, 11 D3, 12 D2, 13 D1, 14 D0, 15 SLEEP, 16 REFLO, 17 REFIO, 18 FS_ADJ, 20 AGND, 21 IOUTB, 22 IOUTA, 24 AVDD, 25 MODE, 26 DGND, 27 DVDD, 28 CLK

## ADS7830
designator *  value ADS7830  Reference: U
ki_keywords: 8bit DAC 8CH; ki_description: Single-supply, 8bit, 8 ch, SAR, 70kHz SR, 2.7 - 5 VDD, I2C, TSSOP-16; ki_fp_filters: TSSOP*4.4x5mm*P0.65mm*; Footprint: Package_SO:TSSOP-16_4.4x5mm_P0.65mm; Datasheet: http://www.ti.com/lit/ds/symlink/ads7830.pdf
pins: 1 CH0, 2 CH1, 3 CH2, 4 CH3, 5 CH4, 6 CH5, 7 CH6, 8 CH7, 9 GND, 10 REFin/REFout, 11 COM, 12 A0, 13 A1, 14 SCL, 15 SDA, 16 VDD

## CS434x-xZZ
designator *  value CS434x-xZZ
ki_keywords: 24-bit PCM DAC; ki_description: 24-Bit, 192-kHz Stereo D/A Converter, TSSOP-10; ki_fp_filters: TSSOP*3x3mm*P0.5mm*; Footprint: Package_SO:TSSOP-10_3x3mm_P0.5mm; Supplier: https://statics.cirrus.com/pubs/proDatasheet/CS4344-45-48_F2.pdf
footprint TSSOP-10_3x3mm_P0.5mm
pins: 1 SDIN, 2 ~{{DEM}/SCLK}, 3 LRCK, 4 MCLK, 5 VQ, 6 FILT+, 7 AOUTL, 8 AGND, 9 VA, 10 AOUTR

## DAC08
designator *  value DAC08  Reference: U
ki_keywords: DAC CNA; ki_description: DA Converter 8 bits; Datasheet: https://www.analog.com/media/en/technical-documentation/data-sheets/DAC08.pdf
pins: 1 VLC, 2 I+, 3 V-, 4 I-, 5 B0, 6 B1, 7 B2, 8 B3, 9 B4, 10 B5, 11 B6, 12 B7, 13 V+, 14 R+, 15 R-, 16 CMP

## DAC081C081CIMK
designator *  value DAC081C081CIMK  Reference: U
ki_keywords: I2C DAC 8-bit; ki_description: 8-bit Micropower DAC with I2C-Compatible Interface, SOT-23-6; ki_fp_filters: SOT?23*; Footprint: Package_TO_SOT_SMD:SOT-23-6; Datasheet: http://www.ti.com/lit/ds/symlink/dac081c081.pdf
pins: 1 VOUT, 2 VA, 3 GND, 4 SDA, 5 SCL, 6 ADR0

## DAC101C081CIMK
designator *  value DAC101C081CIMK  Reference: U
ki_keywords: I2C DAC 10-bit; ki_description: 10-bit Micropower DAC with I2C-Compatible Interface, SOT-23-6; ki_fp_filters: SOT?23*; Footprint: Package_TO_SOT_SMD:SOT-23-6; Datasheet: http://www.ti.com/lit/ds/symlink/dac101c081.pdf
pins: 1 VOUT, 2 VA, 3 GND, 4 SDA, 5 SCL, 6 ADR0

## DAC121C081CIMK
designator *  value DAC121C081CIMK  Reference: U
ki_keywords: I2C DAC 12-bit; ki_description: 12-bit Micropower DAC with I2C-Compatible Interface, SOT-23-6; ki_fp_filters: SOT?23*; Footprint: Package_TO_SOT_SMD:SOT-23-6; Datasheet: http://www.ti.com/lit/ds/symlink/dac121c081.pdf
pins: 1 VOUT, 2 VA, 3 GND, 4 SDA, 5 SCL, 6 ADR0

## DAC0808_DIP
designator *  value DAC0808_DIP  Reference: U
ki_keywords: 8 bit multiplying DAC; ki_description: 8-bit multiplying DAC; ki_fp_filters: DIP*W7.62mm*; Footprint: Package_DIP:DIP-16_W7.62mm; Datasheet: http://www.ti.com/lit/ds/symlink/dac0808.pdf
pins: 1 NC hidden, 2 GND, 3 VEE, 4 I0, 5 A8, 6 A7, 7 A6, 8 A5, 9 A4, 10 A3, 11 A2, 12 A1, 13 VCC, 14 VREF+, 15 VREF-, 16 COMPEN

## DAC0808_SOIC
designator *  value DAC0808_SOIC  Reference: U
ki_keywords: 8 bit multiplying DAC; ki_description: 8-bit multiplying DAC; ki_fp_filters: SOIC*3.9x9.9mm*P1.27mm*; Footprint: Package_SO:SOIC-16_3.9x9.9mm_P1.27mm; Datasheet: http://www.ti.com/lit/ds/symlink/dac0808.pdf
pins: 1 VCC, 2 VREF+, 3 VREF-, 4 COMPEN, 5 NC hidden, 6 GND, 7 VEE, 8 I0, 9 A1, 10 A2, 11 A3, 12 A4, 13 A5, 14 A6, 15 A7, 16 A8

## DAC1220E
designator *  value DAC1220E  Reference: U
ki_keywords: DAC; ki_description: 20-Bit , Low-Power Digital-to-Analog Converter, SSOP-16; ki_fp_filters: SSOP*3.9x4.9mm*P0.635mm*; Footprint: Package_SO:SSOP-16_3.9x4.9mm_P0.635mm; Datasheet: https://www.ti.com/lit/ds/symlink/dac1220.pdf
pins: 1 DVDD, 2 XOUT, 3 XIN, 4 DGND, 5 AVDD, 6 DNC hidden, 7 DNC hidden, 8 DNC hidden, 9 C1, 10 C2, 11 VOUT, 12 VREF, 13 AGND, 14 ~{{CS}}, 15 SDIO, 16 SCLK

## DAC5311xDCK
designator *  value DAC5311xDCK  Reference: U
ki_keywords: DAC SPI 1-channel; ki_description: 8-Bit, Single-Channel, Voltage Output, Serial Interface Digital-to-Analog Converters, SC-70; ki_fp_filters: SOT?363*; Footprint: Package_TO_SOT_SMD:SOT-363_SC-70-6; Datasheet: https://www.ti.com/lit/ds/symlink/dac5311.pdf
pins: 1 ~{{SYNC}}, 2 SCLK, 3 DIN, 4 AVDD/AVREF, 5 GND, 6 VOUT

## DAC5578xPW
designator *  value DAC5578xPW  Reference: U
ki_keywords: DAC I2C TWI 8-channel; ki_description: 8-Bit, Octal-Channel, Ultra-Low Glitch, Voltage Output, Two-Wire Interface Digital-to-Analog Converters, TSSOP-16; ki_fp_filters: TSSOP*4.4x5mm*P0.65mm*; Footprint: Package_SO:TSSOP-16_4.4x5mm_P0.65mm; Datasheet: http://www.ti.com/lit/ds/symlink/dac5578.pdf
pins: 1 ~{{LDAC}}, 2 ADDR0, 3 AVDD, 4 VOUTA, 5 VOUTC, 6 VOUTE, 7 VOUTG, 8 VREFIN, 9 ~{{CLR}}, 10 VOUTH, 11 VOUTF, 12 VOUTD, 13 VOUTB, 14 GND, 15 SDA, 16 SCL

## DAC5578xRGE
designator *  value DAC5578xRGE  Reference: U
ki_keywords: DAC I2C TWI 8-channel; ki_description: 8-Bit, Octal-Channel, Ultra-Low Glitch, Voltage Output, Two-Wire Interface Digital-to-Analog Converters, QFN-24; ki_fp_filters: QFN*1EP*4x4mm*P0.5mm*; Footprint: Package_DFN_QFN:QFN-24-1EP_4x4mm_P0.5mm_EP2.7x2.7mm; Datasheet: http://www.ti.com/lit/ds/symlink/dac5578.pdf
pins: 1 NC hidden, 2 AVDD, 3 VOUTA, 4 VOUTC, 5 VOUTE, 6 VOUTG, 7 NC hidden, 8 VREFIN, 9 RSTSEL, 10 ADDR1, 11 ADDR0, 12 ~{{CLR}}, 13 VOUTH, 14 VOUTF, 15 VOUTD, 16 VOUTB, 17 GND, 18 NC hidden, 19 SDA, 20 SCL, 21 TWOC, 22 ~{{LDAC}}, 23 NC hidden, 24 NC hidden, 25 EP

## DAC6311xDCK
designator *  value DAC6311xDCK  Reference: U
ki_keywords: DAC SPI 1-channel; ki_description: 10-Bit, Single-Channel, Voltage Output, Serial Interface Digital-to-Analog Converters, SC-70; ki_fp_filters: SOT?363*; Footprint: Package_TO_SOT_SMD:SOT-363_SC-70-6; Datasheet: https://www.ti.com/lit/ds/symlink/dac5311.pdf
pins: 1 ~{{SYNC}}, 2 SCLK, 3 DIN, 4 AVDD/AVREF, 5 GND, 6 VOUT

## DAC6578xPW
designator *  value DAC6578xPW  Reference: U
ki_keywords: DAC I2C TWI 8-channel; ki_description: 10-Bit, Octal-Channel, Ultra-Low Glitch, Voltage Output, Two-Wire Interface Digital-to-Analog Converters, TSSOP-16; ki_fp_filters: TSSOP*4.4x5mm*P0.65mm*; Footprint: Package_SO:TSSOP-16_4.4x5mm_P0.65mm; Datasheet: http://www.ti.com/lit/ds/symlink/dac5578.pdf
pins: 1 ~{{LDAC}}, 2 ADDR0, 3 AVDD, 4 VOUTA, 5 VOUTC, 6 VOUTE, 7 VOUTG, 8 VREFIN, 9 ~{{CLR}}, 10 VOUTH, 11 VOUTF, 12 VOUTD, 13 VOUTB, 14 GND, 15 SDA, 16 SCL

## DAC6578xRGE
designator *  value DAC6578xRGE  Reference: U
ki_keywords: DAC I2C TWI 8-channel; ki_description: 10-Bit, Octal-Channel, Ultra-Low Glitch, Voltage Output, Two-Wire Interface Digital-to-Analog Converters, QFN-24; ki_fp_filters: QFN*1EP*4x4mm*P0.5mm*; Footprint: Package_DFN_QFN:QFN-24-1EP_4x4mm_P0.5mm_EP2.7x2.7mm; Datasheet: http://www.ti.com/lit/ds/symlink/dac5578.pdf
pins: 1 NC hidden, 2 AVDD, 3 VOUTA, 4 VOUTC, 5 VOUTE, 6 VOUTG, 7 NC hidden, 8 VREFIN, 9 RSTSEL, 10 ADDR1, 11 ADDR0, 12 ~{{CLR}}, 13 VOUTH, 14 VOUTF, 15 VOUTD, 16 VOUTB, 17 GND, 18 NC hidden, 19 SDA, 20 SCL, 21 TWOC, 22 ~{{LDAC}}, 23 NC hidden, 24 NC hidden, 25 EP

## DAC7311xDCK
designator *  value DAC7311xDCK  Reference: U
ki_keywords: DAC SPI 1-channel; ki_description: 12-Bit, Single-Channel, Voltage Output, Serial Interface Digital-to-Analog Converters, SC-70; ki_fp_filters: SOT?363*; Footprint: Package_TO_SOT_SMD:SOT-363_SC-70-6; Datasheet: https://www.ti.com/lit/ds/symlink/dac5311.pdf
pins: 1 ~{{SYNC}}, 2 SCLK, 3 DIN, 4 AVDD/AVREF, 5 GND, 6 VOUT

## DAC7513_DCN
designator *  value DAC7513_DCN  Reference: U
ki_keywords: TI DAC 12 bit; ki_description: Low-Power, Rail-to-Rail Output, 12-Bit Serial Input DAC; ki_fp_filters: SOT?23*; Footprint: Package_TO_SOT_SMD:SOT-23-8; Datasheet: http://www.ti.com.cn/cn/lit/ds/symlink/dac7513.pdf
pins: 1 VOUT, 2 VFB, 3 VREF, 4 VCC, 5 GND, 6 DIN, 7 SCLK, 8 ~{{SYNC}}

## DAC7565
designator *  value DAC7565  Reference: U
ki_keywords: 12-bit quad DAC voltage reference; ki_description: 12-bit quad-channel voltage output DAC with 2.5V internal reference; ki_fp_filters: TSSOP*4.4x5mm*P0.65mm*; Footprint: Package_SO:TSSOP-16_4.4x5mm_P0.65mm; Datasheet: https://www.ti.com/lit/ds/symlink/dac7565.pdf
pins: 1 VOUTA, 2 VOUTB, 3 VREFH/VREFOUT, 4 AVDD, 5 VREFL, 6 GND, 7 VOUTC, 8 VOUTD, 9 ~{{SYNC}}, 10 SCLK, 11 DIN, 12 IOVDD, 13 ~{{RST}}, 14 RSTSEL, 15 ~{{ENABLE}}, 16 LDAC

## DAC7578xPW
designator *  value DAC7578xPW  Reference: U
ki_keywords: DAC I2C TWI 8-channel; ki_description: 12-Bit, Octal-Channel, Ultra-Low Glitch, Voltage Output, Two-Wire Interface Digital-to-Analog Converters, TSSOP-16; ki_fp_filters: TSSOP*4.4x5mm*P0.65mm*; Footprint: Package_SO:TSSOP-16_4.4x5mm_P0.65mm; Datasheet: http://www.ti.com/lit/ds/symlink/dac5578.pdf
pins: 1 ~{{LDAC}}, 2 ADDR0, 3 AVDD, 4 VOUTA, 5 VOUTC, 6 VOUTE, 7 VOUTG, 8 VREFIN, 9 ~{{CLR}}, 10 VOUTH, 11 VOUTF, 12 VOUTD, 13 VOUTB, 14 GND, 15 SDA, 16 SCL

## DAC7578xRGE
designator *  value DAC7578xRGE  Reference: U
ki_keywords: DAC I2C TWI 8-channel; ki_description: 12-Bit, Octal-Channel, Ultra-Low Glitch, Voltage Output, Two-Wire Interface Digital-to-Analog Converters, QFN-24; ki_fp_filters: QFN*1EP*4x4mm*P0.5mm*; Footprint: Package_DFN_QFN:QFN-24-1EP_4x4mm_P0.5mm_EP2.7x2.7mm; Datasheet: http://www.ti.com/lit/ds/symlink/dac5578.pdf
pins: 1 NC hidden, 2 AVDD, 3 VOUTA, 4 VOUTC, 5 VOUTE, 6 VOUTG, 7 NC hidden, 8 VREFIN, 9 RSTSEL, 10 ADDR1, 11 ADDR0, 12 ~{{CLR}}, 13 VOUTH, 14 VOUTF, 15 VOUTD, 16 VOUTB, 17 GND, 18 NC hidden, 19 SDA, 20 SCL, 21 TWOC, 22 ~{{LDAC}}, 23 NC hidden, 24 NC hidden, 25 EP

## DAC7750xRHA
designator *  value DAC7750xRHA  Reference: U
ki_keywords: DAC Current Loop 20mA; ki_description: Single-Channel, 12bit Programmable Current Output DAC for 4-mA to 20-mA Current Loop Applications, VQFN-40; ki_fp_filters: Texas*PVQFN*; Footprint: Package_DFN_QFN:Texas_S-PVQFN-N40_EP4.6x4.6mm_ThermalVias; Datasheet: http://www.ti.com/lit/ds/symlink/dac7750.pdf
pins: 1 NC hidden, 2 ~{{ALARM}}, 3 GND hidden, 4 GND, 5 CLR, 6 LATCH, 7 SCLK, 8 DIN, 9 SDO, 10 NC hidden, 11 NC hidden, 12 GND hidden, 13 GND hidden, 14 GND hidden, 15 GND hidden, 16 ISET-R, 17 REFOUT, 18 REFIN, 19 NC hidden, 20 NC hidden, 21 NC hidden, 22 NC hidden, 23 DVDD-EN, 24 HART-IN, 25 R3-SENSE, 26 IOUT, 27 BOOST, 28 CAP1, 29 CAP2, 30 NC hidden, 31 NC hidden, 32 NC hidden, 33 NC hidden, 34 NC hidden, 35 NC hidden, 36 AVDD, 37 GND hidden, 38 NC hidden, 39 DVDD, 40 NC hidden, 41 GND hidden

## DAC8165
designator *  value DAC8165  Reference: U
ki_keywords: 14-bit quad DAC voltage reference; ki_description: 14-bit quad-channel voltage output DAC with 2.5V internal reference; ki_fp_filters: TSSOP*4.4x5mm*P0.65mm*; Footprint: Package_SO:TSSOP-16_4.4x5mm_P0.65mm; Datasheet: https://www.ti.com/lit/ds/symlink/dac8165.pdf
pins: 1 VOUTA, 2 VOUTB, 3 VREFH/VREFOUT, 4 AVDD, 5 VREFL, 6 GND, 7 VOUTC, 8 VOUTD, 9 ~{{SYNC}}, 10 SCLK, 11 DIN, 12 IOVDD, 13 ~{{RST}}, 14 RSTSEL, 15 ~{{ENABLE}}, 16 LDAC

## DAC8565
designator *  value DAC8565  Reference: U
ki_keywords: 16-bit quad DAC voltage reference; ki_description: 16-bit quad-channel voltage output DAC with 2.5V internal reference; ki_fp_filters: TSSOP*4.4x5mm*P0.65mm*; Footprint: Package_SO:TSSOP-16_4.4x5mm_P0.65mm; Datasheet: https://www.ti.com/lit/ds/symlink/dac8565.pdf
pins: 1 VOUTA, 2 VOUTB, 3 VREFH/VREFOUT, 4 AVDD, 5 VREFL, 6 GND, 7 VOUTC, 8 VOUTD, 9 ~{{SYNC}}, 10 SCLK, 11 DIN, 12 IOVDD, 13 ~{{RST}}, 14 RSTSEL, 15 ~{{ENABLE}}, 16 LDAC

## DAC8750xRHA
designator *  value DAC8750xRHA  Reference: U
ki_keywords: DAC Current Loop 20mA; ki_description: Single-Channel, 16bit Programmable Current Output DAC for 4-mA to 20-mA Current Loop Applications, VQFN-40; ki_fp_filters: Texas*PVQFN*; Footprint: Package_DFN_QFN:Texas_S-PVQFN-N40_EP4.6x4.6mm_ThermalVias; Datasheet: http://www.ti.com/lit/ds/symlink/dac7750.pdf
pins: 1 NC hidden, 2 ~{{ALARM}}, 3 GND hidden, 4 GND, 5 CLR, 6 LATCH, 7 SCLK, 8 DIN, 9 SDO, 10 NC hidden, 11 NC hidden, 12 GND hidden, 13 GND hidden, 14 GND hidden, 15 GND hidden, 16 ISET-R, 17 REFOUT, 18 REFIN, 19 NC hidden, 20 NC hidden, 21 NC hidden, 22 NC hidden, 23 DVDD-EN, 24 HART-IN, 25 R3-SENSE, 26 IOUT, 27 BOOST, 28 CAP1, 29 CAP2, 30 NC hidden, 31 NC hidden, 32 NC hidden, 33 NC hidden, 34 NC hidden, 35 NC hidden, 36 AVDD, 37 GND hidden, 38 NC hidden, 39 DVDD, 40 NC hidden, 41 GND hidden

## LTC1257
designator *  value LTC1257  Reference: U
ki_keywords: DAC 12-bit; ki_description: Single Supply 12-bit DAC with Internal Reference Voltage, SOIC-8; ki_fp_filters: SOIC*; Datasheet: https://www.analog.com/media/en/technical-documentation/data-sheets/1257fc.pdf
pins: 1 CKL, 2 DIN, 3 ~{{LOAD}}, 4 DOUT, 5 GND, 6 VREF, 7 VOUT, 8 VCC

## LTC1446
designator *  value LTC1446  Reference: U
ki_keywords: 12-Bit DAC SPI Reference 2ch; ki_description: 2-Channel 12-Bit Rail-To-Rail D/A Converters with SPI Interface and Internal Reference (4.096V); ki_fp_filters: DIP*W7.62mm* SOIC*3.9x4.9mm*P1.27mm*; Datasheet: https://www.analog.com/media/en/technical-documentation/data-sheets/1446fa.pdf
pins: 1 SCK, 2 SDI, 3 ~{{CS}/LD}, 4 SDO, 5 VA, 6 GND, 7 VCC, 8 VB
text: DAC; CNTRL

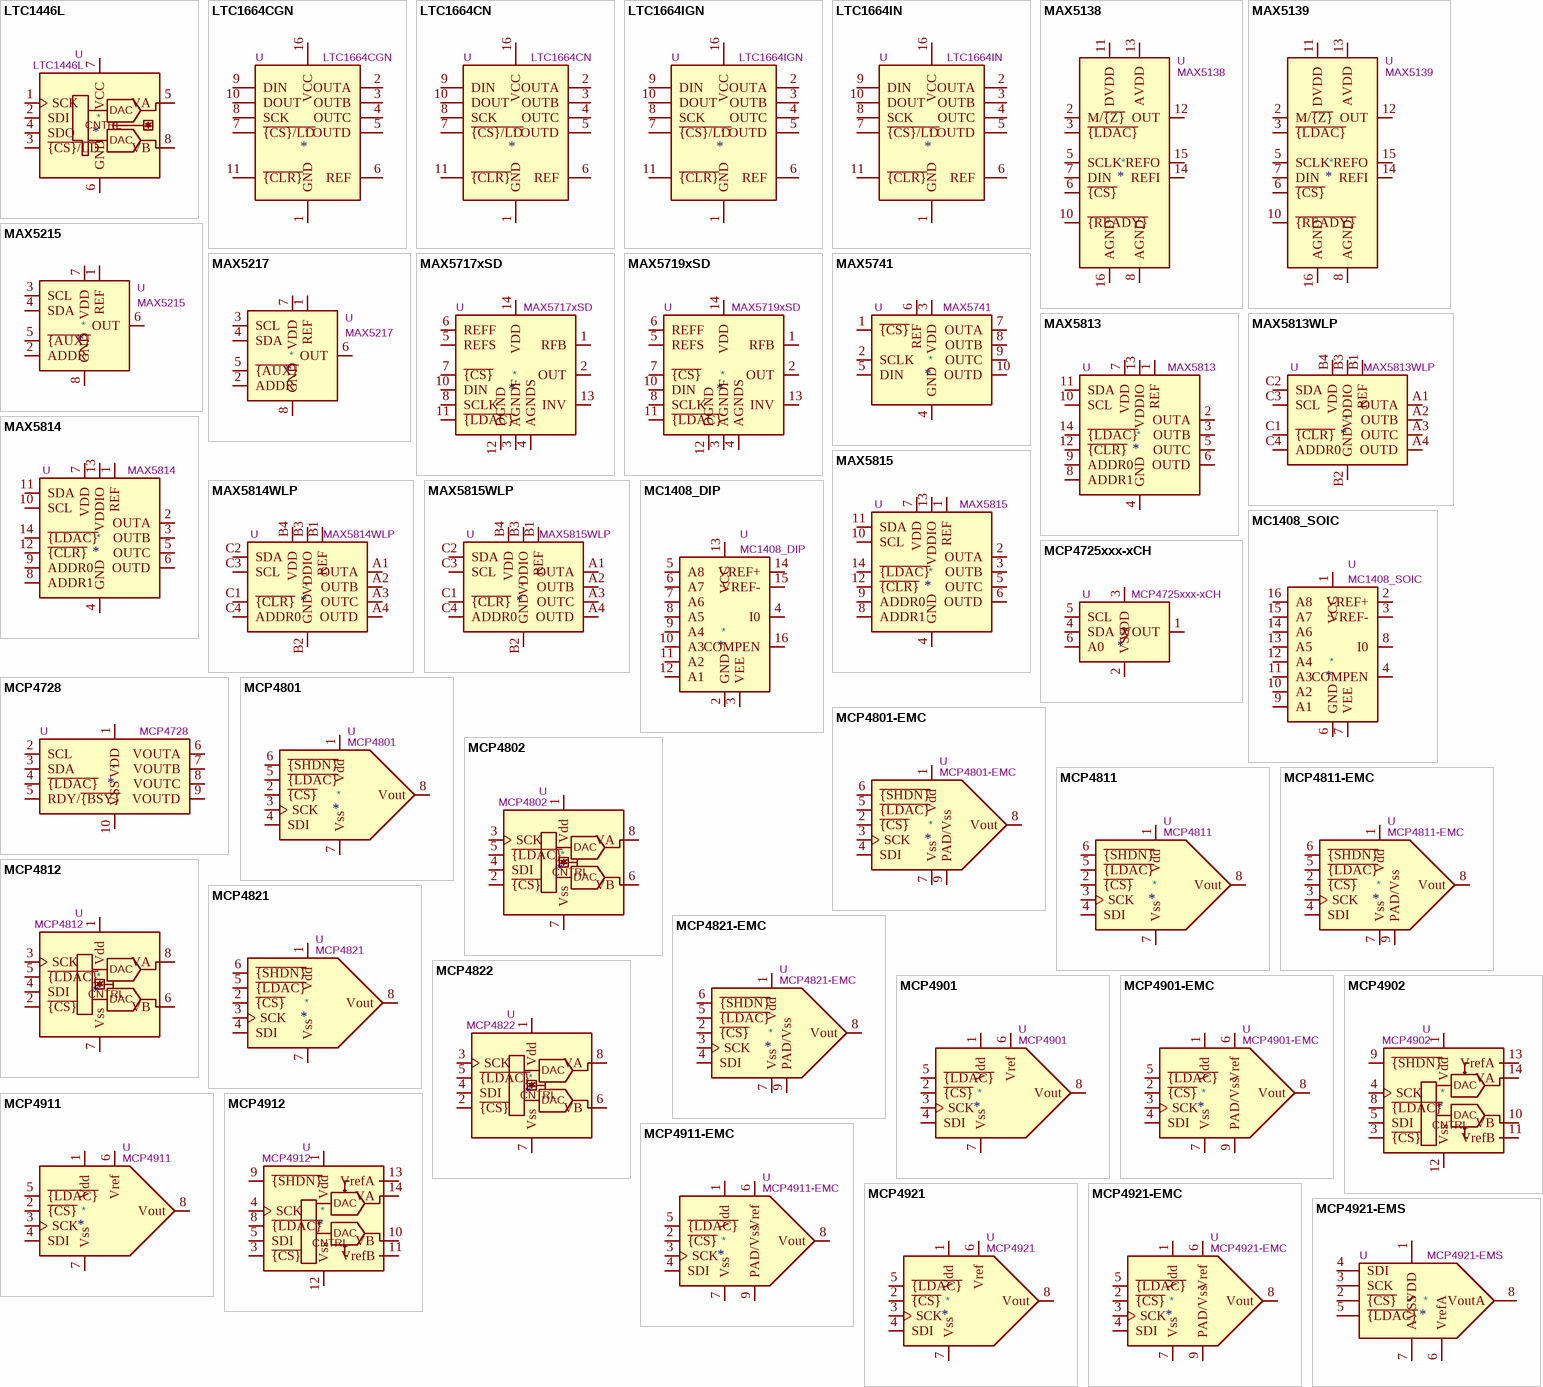
[diagram p3: symbols LTC1446L to MCP4921-EMS]

## LTC1446L
designator *  value LTC1446L  Reference: U
ki_keywords: 12-Bit DAC SPI 2ch; ki_description: 2-Channel 12-Bit Rail-To-Rail D/A Converters with SPI Interface and Internal Reference (2.500V); ki_fp_filters: DIP*W7.62mm* SOIC*3.9x4.9mm*P1.27mm*; Datasheet: https://www.analog.com/media/en/technical-documentation/data-sheets/1446fa.pdf
pins: 1 SCK, 2 SDI, 3 ~{{CS}/LD}, 4 SDO, 5 VA, 6 GND, 7 VCC, 8 VB
text: DAC; CNTRL

## LTC1664CGN
designator *  value LTC1664CGN  Reference: U
ki_keywords: Quad DAC Micropower 10bit 4ch; ki_description: Quad Micropower 10-bit DAC, Standard, SSOP-16; ki_fp_filters: *SSOP*; Datasheet: https://www.analog.com/media/en/technical-documentation/data-sheets/1664fa.pdf
pins: 1 GND, 2 OUTA, 3 OUTB, 4 OUTC, 5 OUTD, 6 REF, 7 ~{{CS}/LD}, 8 SCK, 9 DIN, 10 DOUT, 11 ~{{CLR}}, 12 NC hidden, 13 NC hidden, 14 NC hidden, 15 NC hidden, 16 VCC

## LTC1664CN
designator *  value LTC1664CN  Reference: U
ki_keywords: Quad DAC Micropower 10bit 4ch; ki_description: Quad Micropower 10-bit DAC, Standard, DIP-16; ki_fp_filters: *SSOP*; Datasheet: https://www.analog.com/media/en/technical-documentation/data-sheets/1664fa.pdf
pins: 1 GND, 2 OUTA, 3 OUTB, 4 OUTC, 5 OUTD, 6 REF, 7 ~{{CS}/LD}, 8 SCK, 9 DIN, 10 DOUT, 11 ~{{CLR}}, 12 NC hidden, 13 NC hidden, 14 NC hidden, 15 NC hidden, 16 VCC

## LTC1664IGN
designator *  value LTC1664IGN  Reference: U
ki_keywords: Quad DAC Micropower 10bit 4ch; ki_description: Quad Micropower 10-bit DAC, Industrial, SSOP-16; ki_fp_filters: *SSOP*; Datasheet: https://www.analog.com/media/en/technical-documentation/data-sheets/1664fa.pdf
pins: 1 GND, 2 OUTA, 3 OUTB, 4 OUTC, 5 OUTD, 6 REF, 7 ~{{CS}/LD}, 8 SCK, 9 DIN, 10 DOUT, 11 ~{{CLR}}, 12 NC hidden, 13 NC hidden, 14 NC hidden, 15 NC hidden, 16 VCC

## LTC1664IN
designator *  value LTC1664IN  Reference: U
ki_keywords: Quad DAC Micropower 10bit 4ch; ki_description: Quad Micropower 10-bit DAC, Industrial, DIP-16; ki_fp_filters: *SSOP*; Datasheet: https://www.analog.com/media/en/technical-documentation/data-sheets/1664fa.pdf
pins: 1 GND, 2 OUTA, 3 OUTB, 4 OUTC, 5 OUTD, 6 REF, 7 ~{{CS}/LD}, 8 SCK, 9 DIN, 10 DOUT, 11 ~{{CLR}}, 12 NC hidden, 13 NC hidden, 14 NC hidden, 15 NC hidden, 16 VCC

## MAX5138
designator *  value MAX5138  Reference: U
ki_keywords: 16-bit DAC 1CH; ki_description: Low-Power, Single, 16-Bit, Buffered Voltage-Output DAC; ki_fp_filters: TQFN*1EP*3x3mm*P0.5mm*; Footprint: Package_DFN_QFN:TQFN-16-1EP_3x3mm_P0.5mm_EP1.23x1.23mm; Datasheet: https://datasheets.maximintegrated.com/en/ds/MAX5138-MAX5139.pdf
pins: 1 NC hidden, 2 M/~{{Z}}, 3 ~{{LDAC}}, 4 NC hidden, 5 SCLK, 6 ~{{CS}}, 7 DIN, 8 AGND, 9 NC hidden, 10 ~{{READY}}, 11 DVDD, 12 OUT, 13 AVDD, 14 REFI, 15 REFO, 16 AGND

## MAX5139
designator *  value MAX5139  Reference: U
ki_keywords: 12-bit DAC 1CH; ki_description: Low-Power, Single, 12-Bit, Buffered Voltage-Output DAC; ki_fp_filters: TQFN*1EP*3x3mm*P0.5mm*; Footprint: Package_DFN_QFN:TQFN-16-1EP_3x3mm_P0.5mm_EP1.23x1.23mm; Datasheet: https://datasheets.maximintegrated.com/en/ds/MAX5138-MAX5139.pdf
pins: 1 NC hidden, 2 M/~{{Z}}, 3 ~{{LDAC}}, 4 NC hidden, 5 SCLK, 6 ~{{CS}}, 7 DIN, 8 AGND, 9 NC hidden, 10 ~{{READY}}, 11 DVDD, 12 OUT, 13 AVDD, 14 REFI, 15 REFO, 16 AGND

## MAX5215
designator *  value MAX5215  Reference: U
ki_keywords: DA 14 Bit 1 ch; ki_description: Digital to analog, 14 Bit, 1 ch, 2.7 - 5.5 VDD, I2C, uMAX-8; ki_fp_filters: MSOP*3x3mm*P0.65mm*; Footprint: Package_SO:MSOP-8_3x3mm_P0.65mm; Datasheet: https://datasheets.maximintegrated.com/en/ds/MAX5215-MAX5217.pdf
pins: 1 REF, 2 ADDR, 3 SCL, 4 SDA, 5 ~{{AUX}}, 6 OUT, 7 VDD, 8 GND

## MAX5217
designator *  value MAX5217  Reference: U
ki_keywords: DA 16 Bit 1 ch; ki_description: Digital to analog, 16 Bit, 1 ch, 2.7 - 5.5 VDD, I2C, uMAX-8; ki_fp_filters: MSOP*3x3mm*P0.65mm*; Footprint: Package_SO:MSOP-8_3x3mm_P0.65mm; Datasheet: https://datasheets.maximintegrated.com/en/ds/MAX5215-MAX5217.pdf
pins: 1 REF, 2 ADDR, 3 SCL, 4 SDA, 5 ~{{AUX}}, 6 OUT, 7 VDD, 8 GND

## MAX5717xSD
designator *  value MAX5717xSD  Reference: U
ki_keywords: DAC; ki_description: 16-bit Voltage Digital-to-Analog converter, SOIC-14; ki_fp_filters: SOIC*3.9x8.7mm*P1.27mm*; Footprint: Package_SO:SOIC-14_3.9x8.7mm_P1.27mm; Datasheet: https://datasheets.maximintegrated.com/en/ds/MAX5717-MAX5719.pdf
pins: 1 RFB, 2 OUT, 3 AGNDF, 4 AGNDS, 5 REFS, 6 REFF, 7 ~{{CS}}, 8 SCLK, 9 NC hidden, 10 DIN, 11 ~{{LDAC}}, 12 DGND, 13 INV, 14 VDD

## MAX5719xSD
designator *  value MAX5719xSD  Reference: U
ki_keywords: DAC; ki_description: 20-bit Voltage Digital-to-Analog converter, SOIC-14; ki_fp_filters: SOIC*3.9x8.7mm*P1.27mm*; Footprint: Package_SO:SOIC-14_3.9x8.7mm_P1.27mm; Datasheet: https://datasheets.maximintegrated.com/en/ds/MAX5717-MAX5719.pdf
pins: 1 RFB, 2 OUT, 3 AGNDF, 4 AGNDS, 5 REFS, 6 REFF, 7 ~{{CS}}, 8 SCLK, 9 NC hidden, 10 DIN, 11 ~{{LDAC}}, 12 DGND, 13 INV, 14 VDD

## MAX5741
designator *  value MAX5741  Reference: U
ki_keywords: DA 8 Bit 4 ch; ki_description: Digital to analog, 10 Bit, 4 ch, 2.7 - 5.5 VDD, SPI, uMAX-10; ki_fp_filters: MSOP*3x3mm?P0.5mm*; Footprint: Package_SO:MSOP-10_3x3mm_P0.5mm; Datasheet: https://datasheets.maximintegrated.com/en/ds/MAX5741.pdf
pins: 1 ~{{CS}}, 2 SCLK, 3 VDD, 4 GND, 5 DIN, 6 REF, 7 OUTA, 8 OUTB, 9 OUTC, 10 OUTD

## MAX5813
designator *  value MAX5813  Reference: U
ki_keywords: DA 8 Bit 4 ch; ki_description: Digital to analog, 8 Bit, 4 ch, 2.7 - 5.5 VDD, I2C, TSSOP-14; ki_fp_filters: *TSSOP*14*4.4*; Datasheet: http://datasheets.maximintegrated.com/en/ds/MAX5813-MAX5815.pdf
pins: 1 REF, 2 OUTA, 3 OUTB, 4 GND, 5 OUTC, 6 OUTD, 7 VDD, 8 ADDR1, 9 ADDR0, 10 SCL, 11 SDA, 12 ~{{CLR}}, 13 VDDIO, 14 ~{{LDAC}}

## MAX5813WLP
designator *  value MAX5813WLP  Reference: U
ki_keywords: DA 8 Bit 4 ch; ki_description: Digital to analog, 8 Bit, 4 ch, 2.7 - 5.5 VDD, I2C, TSSOP-14, Maxim_WLP-12; ki_fp_filters: *Maxim*WLP*12*; Datasheet: http://datasheets.maximintegrated.com/en/ds/MAX5813-MAX5815.pdf
pins: A1 OUTA, A2 OUTB, A3 OUTC, A4 OUTD, B1 REF, B2 GND, B3 VDDIO, B4 VDD, C1 ~{{CLR}}, C2 SDA, C3 SCL, C4 ADDR0

## MAX5814
designator *  value MAX5814  Reference: U
ki_keywords: DA 10 Bit 4 ch; ki_description: Digital to analog, 10 Bit, 4 ch, 2.7 - 5.5 VDD, I2C, TSSOP-14; ki_fp_filters: *TSSOP*14*4.4*; Datasheet: http://datasheets.maximintegrated.com/en/ds/MAX5813-MAX5815.pdf
pins: 1 REF, 2 OUTA, 3 OUTB, 4 GND, 5 OUTC, 6 OUTD, 7 VDD, 8 ADDR1, 9 ADDR0, 10 SCL, 11 SDA, 12 ~{{CLR}}, 13 VDDIO, 14 ~{{LDAC}}

## MAX5814WLP
designator *  value MAX5814WLP  Reference: U
ki_keywords: DA 10 Bit 4 ch; ki_description: Digital to analog, 10 Bit, 4 ch, 2.7 - 5.5 VDD, I2C, TSSOP-14, Maxim_WLP-12; ki_fp_filters: *Maxim*WLP*12*; Datasheet: http://datasheets.maximintegrated.com/en/ds/MAX5813-MAX5815.pdf
pins: A1 OUTA, A2 OUTB, A3 OUTC, A4 OUTD, B1 REF, B2 GND, B3 VDDIO, B4 VDD, C1 ~{{CLR}}, C2 SDA, C3 SCL, C4 ADDR0

## MAX5815
designator *  value MAX5815  Reference: U
ki_keywords: DA 12 Bit 4 ch; ki_description: Digital to analog, 12 Bit, 4 ch, 2.7 - 5.5 VDD, I2C, TSSOP-14; ki_fp_filters: *TSSOP*14*4.4*; Datasheet: http://datasheets.maximintegrated.com/en/ds/MAX5813-MAX5815.pdf
pins: 1 REF, 2 OUTA, 3 OUTB, 4 GND, 5 OUTC, 6 OUTD, 7 VDD, 8 ADDR1, 9 ADDR0, 10 SCL, 11 SDA, 12 ~{{CLR}}, 13 VDDIO, 14 ~{{LDAC}}

## MAX5815WLP
designator *  value MAX5815WLP  Reference: U
ki_keywords: DA 12 Bit 4 ch; ki_description: Digital to analog, 12 Bit, 4 ch, 2.7 - 5.5 VDD, I2C, TSSOP-14, Maxim_WLP-12; ki_fp_filters: *Maxim*WLP*12*; Datasheet: http://datasheets.maximintegrated.com/en/ds/MAX5813-MAX5815.pdf
pins: A1 OUTA, A2 OUTB, A3 OUTC, A4 OUTD, B1 REF, B2 GND, B3 VDDIO, B4 VDD, C1 ~{{CLR}}, C2 SDA, C3 SCL, C4 ADDR0

## MC1408_DIP
designator *  value MC1408_DIP  Reference: U
ki_keywords: 8 bit multiplying DAC; ki_description: 8-bit multiplying DAC; ki_fp_filters: DIP*W7.62mm*; Footprint: Package_DIP:DIP-16_W7.62mm; Datasheet: http://www.pinballpcb.com/datasheets/OnMC1408-dac.pdf
pins: 1 NC hidden, 2 GND, 3 VEE, 4 I0, 5 A8, 6 A7, 7 A6, 8 A5, 9 A4, 10 A3, 11 A2, 12 A1, 13 VCC, 14 VREF+, 15 VREF-, 16 COMPEN